# Altium integrated library Xilinx Spartan-II.IntLib: 120 symbols (part 1 of 15)
Pins are listed as number, name and electrical type; pins without a type are passive.

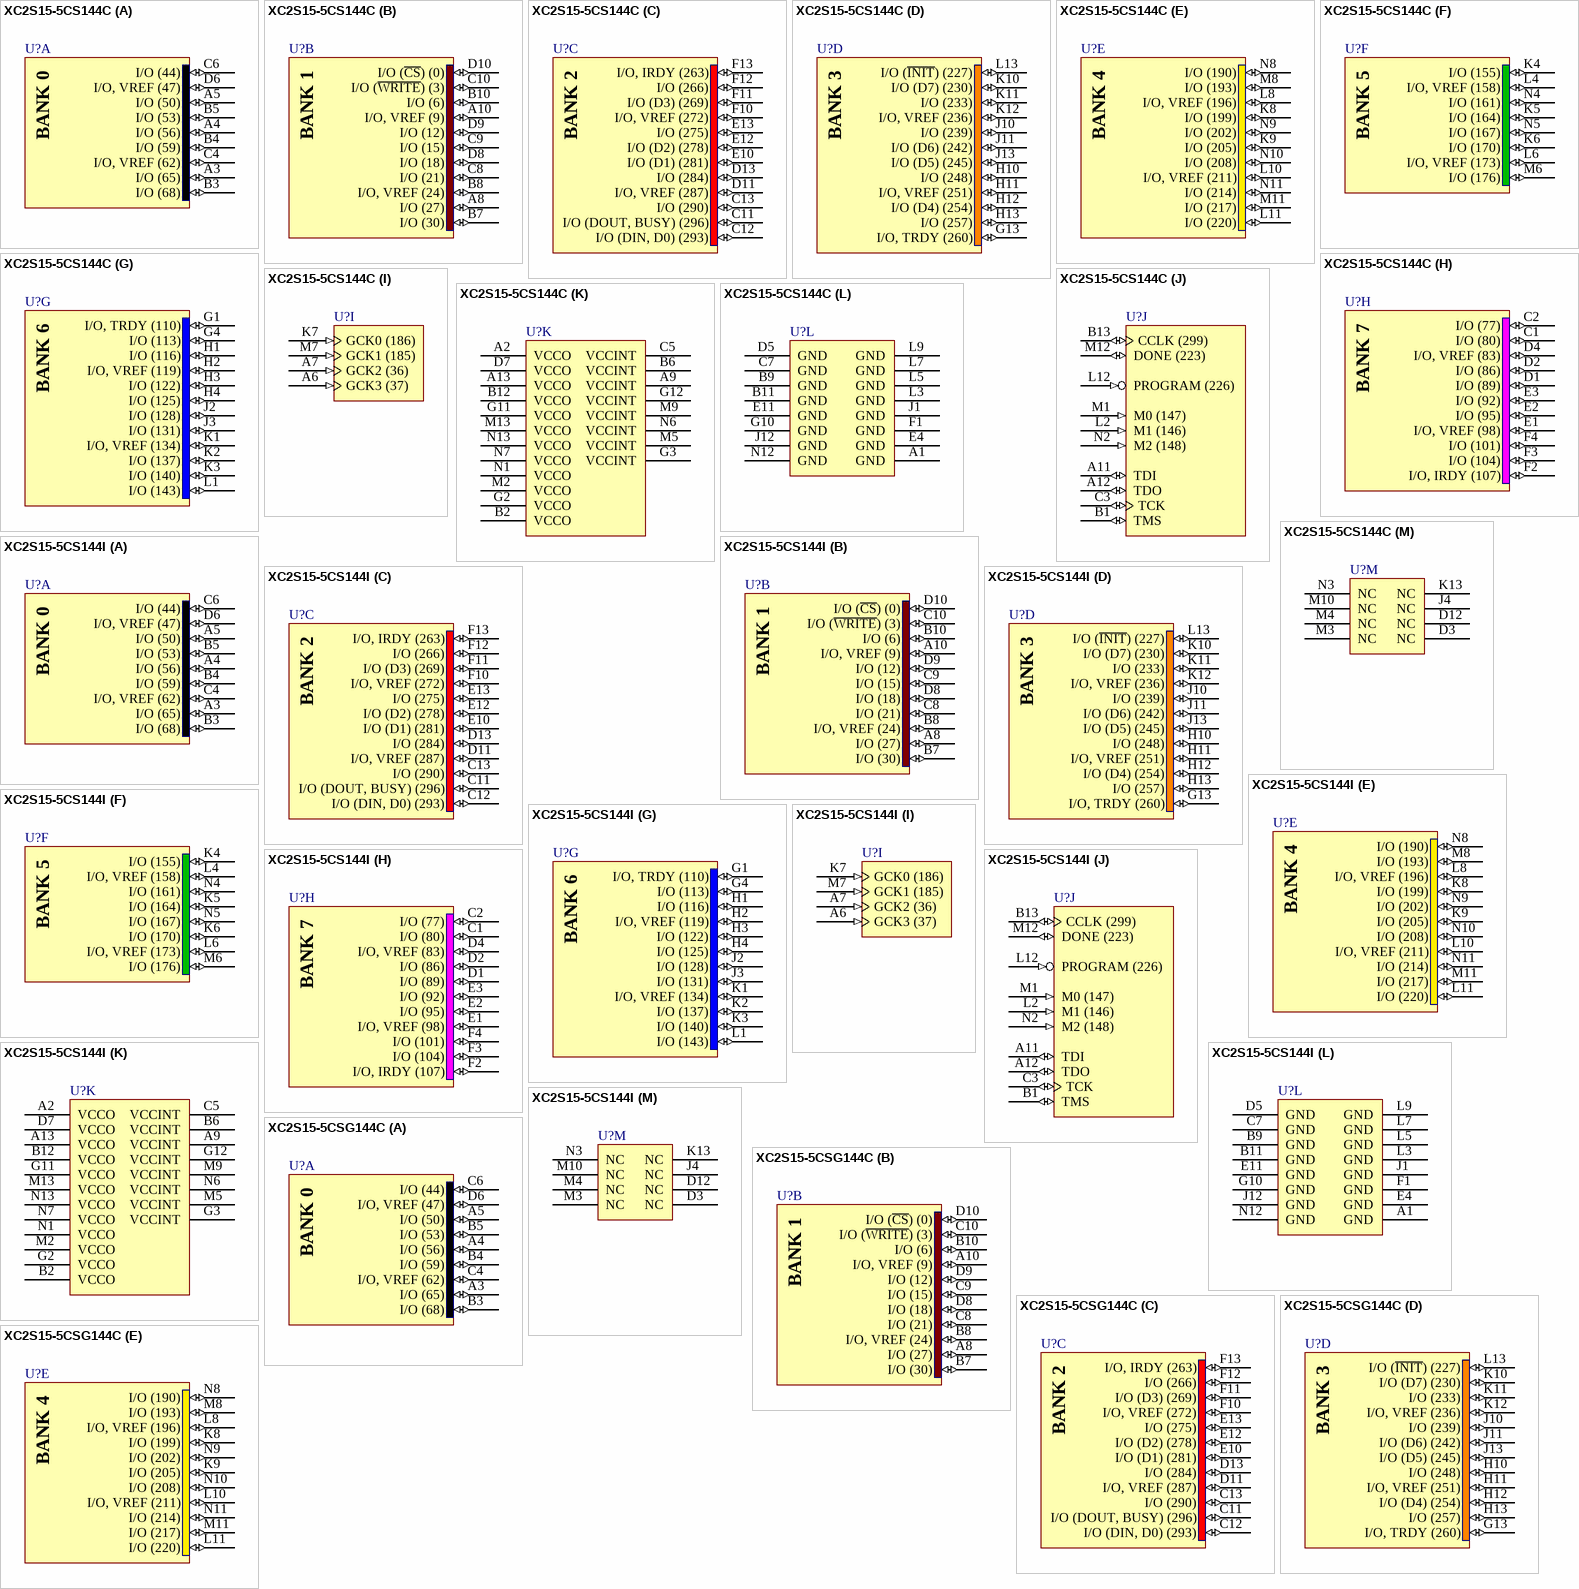
[diagram p0: symbols XC2S15-5CS144C to XC2S15-5CSG144C]

## XC2S15-5CS144C
designator U?
Spartan-II 2.5V FPGA, 86 User I/Os, 144-Ball CSBGA, Standard Performance, Commercial Grade; Published: 13-Jul-2001; LatestRevisionDate: 16-Nov-2009; LatestRevisionNote: Updated to datasheet version 2.8 Jun-2008.; DatasheetVersion: ver2.8, Jun-2008; PackageVersion: ver1.3, Jan-2007; PackageReference: CS144; Publisher: Altium Limited; PackageDescription: 144-Ball Chip Scale Ball Grid Array (CS144); Supplier 1: Digi-Key; Supplier Part Number 1: XC2S15-5CS144C-ND; Code_JEDEC: MO-216-BAG-2 (Depopulated); ComponentLink1Description: Spartan-II Datasheet; ComponentLink1URL: http://www.xilinx.com/support/documentation/data_sheets/ds001.pdf; ComponentLink2Description: Discontinuation Notice; ComponentLink2URL: http://www.xilinx.com/support/documentation/customer_notices/pdn2004-01.pdf; ComponentLink3Description: CS144 Package Drawing; ComponentLink3URL: http://www.xilinx.com/support/documentation/package_specs/cs144.pdf; ComponentLink4Description: Spartan-II Documents; ComponentLink4URL: http://www.xilinx.com/support/documentation/spartan-ii.htm; ComponentLink5Description: Xilinx.com Home; ComponentLink5URL: http://www.xilinx.com
footprint CS144 (BGA, 144-Leads, Body 12x12mm, Pitch 0.8mm)
signal-integrity model XC2S15_CS144 (Spartan-II)
part A pins: A3 I/O (65) (io), A4 I/O (56) (io), A5 I/O (50) (io), B3 I/O (68) (io), B4 I/O (59) (io), B5 I/O (53) (io), C4 I/O, VREF (62) (io), C6 I/O (44) (io), D6 I/O, VREF (47) (io)
part B pins: A8 I/O (27) (io), A10 I/O, VREF (9) (io), B7 I/O (30) (io), B8 I/O, VREF (24) (io), B10 I/O (6) (io), C8 I/O (21) (io), C9 I/O (15) (io), C10 I/O (~{WRITE}) (3) (io), D8 I/O (18) (io), D9 I/O (12) (io), D10 I/O (~{CS}) (0) (io)
part C pins: C11 I/O (DOUT, BUSY) (296) (io), C12 I/O (DIN, D0) (293) (io), C13 I/O (290) (io), D11 I/O, VREF (287) (io), D13 I/O (284) (io), E10 I/O (D1) (281) (io), E12 I/O (D2) (278) (io), E13 I/O (275) (io), F10 I/O, VREF (272) (io), F11 I/O (D3) (269) (io), F12 I/O (266) (io), F13 I/O, IRDY (263) (io)
part D pins: G13 I/O, TRDY (260) (io), H10 I/O (248) (io), H11 I/O, VREF (251) (io), H12 I/O (D4) (254) (io), H13 I/O (257) (io), J10 I/O (239) (io), J11 I/O (D6) (242) (io), J13 I/O (D5) (245) (io), K10 I/O (D7) (230) (io), K11 I/O (233) (io), K12 I/O, VREF (236) (io), L13 I/O (~{INIT}) (227) (io)
part E pins: K8 I/O (199) (io), K9 I/O (205) (io), L8 I/O, VREF (196) (io), L10 I/O, VREF (211) (io), L11 I/O (220) (io), M8 I/O (193) (io), M11 I/O (217) (io), N8 I/O (190) (io), N9 I/O (202) (io), N10 I/O (208) (io), N11 I/O (214) (io)
part F pins: K4 I/O (155) (io), K5 I/O (164) (io), K6 I/O (170) (io), L4 I/O, VREF (158) (io), L6 I/O, VREF (173) (io), M6 I/O (176) (io), N4 I/O (161) (io), N5 I/O (167) (io)
part G pins: G1 I/O, TRDY (110) (io), G4 I/O (113) (io), H1 I/O (116) (io), H2 I/O, VREF (119) (io), H3 I/O (122) (io), H4 I/O (125) (io), J2 I/O (128) (io), J3 I/O (131) (io), K1 I/O, VREF (134) (io), K2 I/O (137) (io), K3 I/O (140) (io), L1 I/O (143) (io)
part H pins: C1 I/O (80) (io), C2 I/O (77) (io), D1 I/O (89) (io), D2 I/O (86) (io), D4 I/O, VREF (83) (io), E1 I/O, VREF (98) (io), E2 I/O (95) (io), E3 I/O (92) (io), F2 I/O, IRDY (107) (io), F3 I/O (104) (io), F4 I/O (101) (io)
part I pins: A6 GCK3 (37) (in), A7 GCK2 (36) (in), K7 GCK0 (186) (in), M7 GCK1 (185) (in)
part J pins: A11 TDI (io), A12 TDO (io), B1 TMS (io), B13 CCLK (299) (io), C3 TCK (io), L2 M1 (146) (in), L12 PROGRAM (226) (in), M1 M0 (147) (in), M12 DONE (223) (io), N2 M2 (148) (in)
part K pins: A2 VCCO (power), A9 VCCINT (power), A13 VCCO (power), B2 VCCO (power), B6 VCCINT (power), B12 VCCO (power), C5 VCCINT (power), D7 VCCO (power), G2 VCCO (power), G3 VCCINT (power), G11 VCCO (power), G12 VCCINT (power), M2 VCCO (power), M5 VCCINT (power), M9 VCCINT (power), M13 VCCO (power), N1 VCCO (power), N6 VCCINT (power), N7 VCCO (power), N13 VCCO (power)
part L pins: A1 GND (power), B9 GND (power), B11 GND (power), C7 GND (power), D5 GND (power), E4 GND (power), E11 GND (power), F1 GND (power), G10 GND (power), J1 GND (power), J12 GND (power), L3 GND (power), L5 GND (power), L7 GND (power), L9 GND (power), N12 GND (power)
part M pins: D3 NC, D12 NC, J4 NC, K13 NC, M3 NC, M4 NC, M10 NC, N3 NC
part A text: BANK 0
part B text: BANK 1
part C text: BANK 2
part D text: BANK 3
part E text: BANK 4
part F text: BANK 5
part G text: BANK 6
part H text: BANK 7

## XC2S15-5CS144I
designator U?
Spartan-II 2.5V FPGA, 86 User I/Os, 144-Ball CSBGA, Standard Performance, Industrial Grade; Published: 13-Jul-2001; LatestRevisionDate: 16-Nov-2009; LatestRevisionNote: Updated to datasheet version 2.8 Jun-2008.; DatasheetVersion: ver2.8, Jun-2008; PackageVersion: ver1.3, Jan-2007; PackageReference: CS144; Publisher: Altium Limited; PackageDescription: 144-Ball Chip Scale Ball Grid Array (CS144); Supplier 1: Digi-Key; Supplier Part Number 1: XC2S15-5CS144I-ND; Code_JEDEC: MO-216-BAG-2 (Depopulated); ComponentLink1Description: Spartan-II Datasheet; ComponentLink1URL: http://www.xilinx.com/support/documentation/data_sheets/ds001.pdf; ComponentLink2Description: Discontinuation Notice; ComponentLink2URL: http://www.xilinx.com/support/documentation/customer_notices/pdn2004-01.pdf; ComponentLink3Description: CS144 Package Drawing; ComponentLink3URL: http://www.xilinx.com/support/documentation/package_specs/cs144.pdf; ComponentLink4Description: Spartan-II Documents; ComponentLink4URL: http://www.xilinx.com/support/documentation/spartan-ii.htm; ComponentLink5Description: Xilinx.com Home; ComponentLink5URL: http://www.xilinx.com
footprint CS144 (BGA, 144-Leads, Body 12x12mm, Pitch 0.8mm)
signal-integrity model XC2S15_CS144 (Spartan-II)
part A pins: A3 I/O (65) (io), A4 I/O (56) (io), A5 I/O (50) (io), B3 I/O (68) (io), B4 I/O (59) (io), B5 I/O (53) (io), C4 I/O, VREF (62) (io), C6 I/O (44) (io), D6 I/O, VREF (47) (io)
part B pins: A8 I/O (27) (io), A10 I/O, VREF (9) (io), B7 I/O (30) (io), B8 I/O, VREF (24) (io), B10 I/O (6) (io), C8 I/O (21) (io), C9 I/O (15) (io), C10 I/O (~{WRITE}) (3) (io), D8 I/O (18) (io), D9 I/O (12) (io), D10 I/O (~{CS}) (0) (io)
part C pins: C11 I/O (DOUT, BUSY) (296) (io), C12 I/O (DIN, D0) (293) (io), C13 I/O (290) (io), D11 I/O, VREF (287) (io), D13 I/O (284) (io), E10 I/O (D1) (281) (io), E12 I/O (D2) (278) (io), E13 I/O (275) (io), F10 I/O, VREF (272) (io), F11 I/O (D3) (269) (io), F12 I/O (266) (io), F13 I/O, IRDY (263) (io)
part D pins: G13 I/O, TRDY (260) (io), H10 I/O (248) (io), H11 I/O, VREF (251) (io), H12 I/O (D4) (254) (io), H13 I/O (257) (io), J10 I/O (239) (io), J11 I/O (D6) (242) (io), J13 I/O (D5) (245) (io), K10 I/O (D7) (230) (io), K11 I/O (233) (io), K12 I/O, VREF (236) (io), L13 I/O (~{INIT}) (227) (io)
part E pins: K8 I/O (199) (io), K9 I/O (205) (io), L8 I/O, VREF (196) (io), L10 I/O, VREF (211) (io), L11 I/O (220) (io), M8 I/O (193) (io), M11 I/O (217) (io), N8 I/O (190) (io), N9 I/O (202) (io), N10 I/O (208) (io), N11 I/O (214) (io)
part F pins: K4 I/O (155) (io), K5 I/O (164) (io), K6 I/O (170) (io), L4 I/O, VREF (158) (io), L6 I/O, VREF (173) (io), M6 I/O (176) (io), N4 I/O (161) (io), N5 I/O (167) (io)
part G pins: G1 I/O, TRDY (110) (io), G4 I/O (113) (io), H1 I/O (116) (io), H2 I/O, VREF (119) (io), H3 I/O (122) (io), H4 I/O (125) (io), J2 I/O (128) (io), J3 I/O (131) (io), K1 I/O, VREF (134) (io), K2 I/O (137) (io), K3 I/O (140) (io), L1 I/O (143) (io)
part H pins: C1 I/O (80) (io), C2 I/O (77) (io), D1 I/O (89) (io), D2 I/O (86) (io), D4 I/O, VREF (83) (io), E1 I/O, VREF (98) (io), E2 I/O (95) (io), E3 I/O (92) (io), F2 I/O, IRDY (107) (io), F3 I/O (104) (io), F4 I/O (101) (io)
part I pins: A6 GCK3 (37) (in), A7 GCK2 (36) (in), K7 GCK0 (186) (in), M7 GCK1 (185) (in)
part J pins: A11 TDI (io), A12 TDO (io), B1 TMS (io), B13 CCLK (299) (io), C3 TCK (io), L2 M1 (146) (in), L12 PROGRAM (226) (in), M1 M0 (147) (in), M12 DONE (223) (io), N2 M2 (148) (in)
part K pins: A2 VCCO (power), A9 VCCINT (power), A13 VCCO (power), B2 VCCO (power), B6 VCCINT (power), B12 VCCO (power), C5 VCCINT (power), D7 VCCO (power), G2 VCCO (power), G3 VCCINT (power), G11 VCCO (power), G12 VCCINT (power), M2 VCCO (power), M5 VCCINT (power), M9 VCCINT (power), M13 VCCO (power), N1 VCCO (power), N6 VCCINT (power), N7 VCCO (power), N13 VCCO (power)
part L pins: A1 GND (power), B9 GND (power), B11 GND (power), C7 GND (power), D5 GND (power), E4 GND (power), E11 GND (power), F1 GND (power), G10 GND (power), J1 GND (power), J12 GND (power), L3 GND (power), L5 GND (power), L7 GND (power), L9 GND (power), N12 GND (power)
part M pins: D3 NC, D12 NC, J4 NC, K13 NC, M3 NC, M4 NC, M10 NC, N3 NC
part A text: BANK 0
part B text: BANK 1
part C text: BANK 2
part D text: BANK 3
part E text: BANK 4
part F text: BANK 5
part G text: BANK 6
part H text: BANK 7

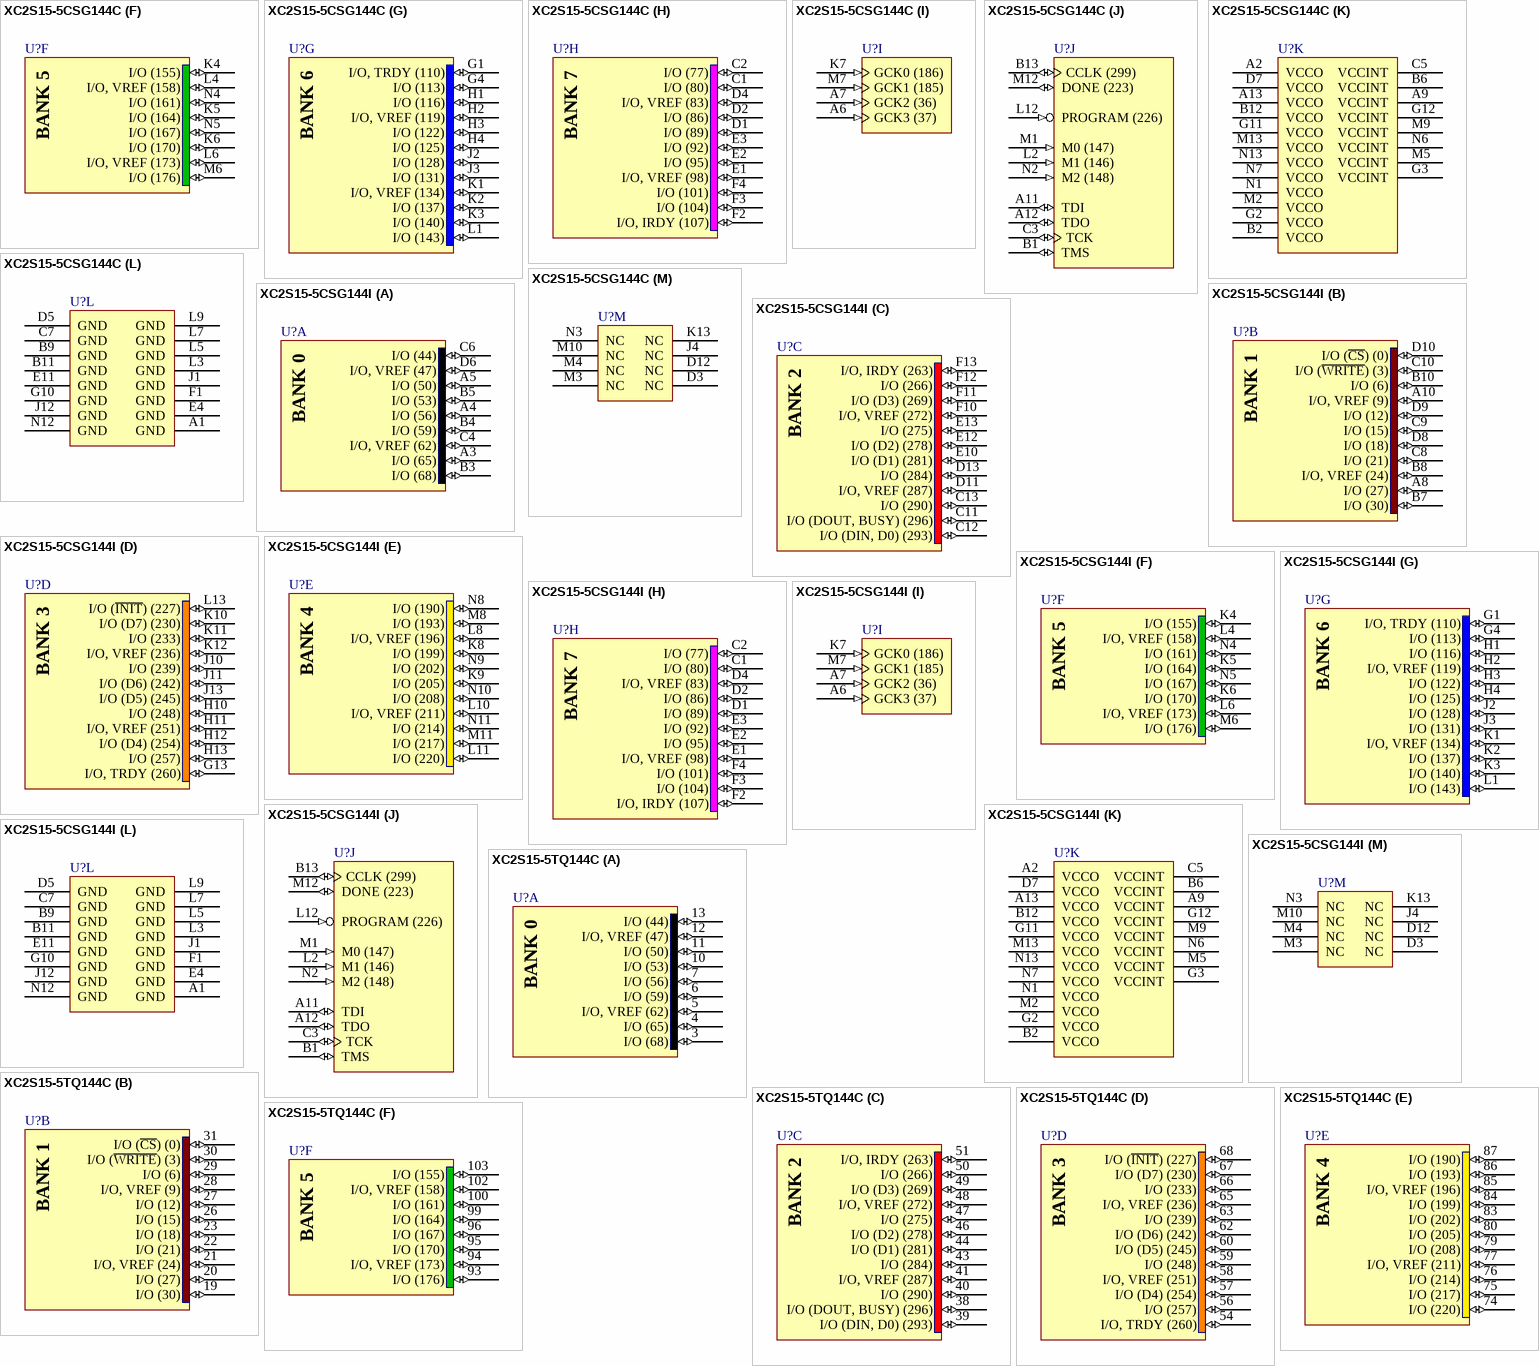
[diagram p1: symbols XC2S15-5CSG144C to XC2S15-5TQ144C]

## XC2S15-5CSG144C
designator U?
Spartan-II 2.5V FPGA, 86 User I/Os, 144-Ball CSBGA, Standard Performance, Commercial Grade, Pb-Free; Published: 2-Mar-2006; LatestRevisionDate: 16-Nov-2009; LatestRevisionNote: Updated to datasheet version 2.8 Jun-2008.; DatasheetVersion: ver2.8, Jun-2008; PackageVersion: ver1.3, Jan-2007; PackageReference: CSG144; Publisher: Altium Limited; PackageDescription: 144-Ball Chip Scale Ball Grid Array (CSG144) - Pb-Free; Code_JEDEC: MO-216-BAG-2 (Depopulated); ComponentLink1Description: Spartan-II Datasheet; ComponentLink1URL: http://www.xilinx.com/support/documentation/data_sheets/ds001.pdf; ComponentLink2Description: CSG144 Package Drawing; ComponentLink2URL: http://www.xilinx.com/support/documentation/package_specs/cs144.pdf; ComponentLink3Description: Spartan-II Documents; ComponentLink3URL: http://www.xilinx.com/support/documentation/spartan-ii.htm; ComponentLink4Description: Xilinx.com Home; ComponentLink4URL: http://www.xilinx.com
footprint CSG144 (BGA, 144-Leads, Body 12x12mm, Pitch 0.8mm)
signal-integrity model XC2S15_CSG144 (Spartan-II)
part A pins: A3 I/O (65) (io), A4 I/O (56) (io), A5 I/O (50) (io), B3 I/O (68) (io), B4 I/O (59) (io), B5 I/O (53) (io), C4 I/O, VREF (62) (io), C6 I/O (44) (io), D6 I/O, VREF (47) (io)
part B pins: A8 I/O (27) (io), A10 I/O, VREF (9) (io), B7 I/O (30) (io), B8 I/O, VREF (24) (io), B10 I/O (6) (io), C8 I/O (21) (io), C9 I/O (15) (io), C10 I/O (~{WRITE}) (3) (io), D8 I/O (18) (io), D9 I/O (12) (io), D10 I/O (~{CS}) (0) (io)
part C pins: C11 I/O (DOUT, BUSY) (296) (io), C12 I/O (DIN, D0) (293) (io), C13 I/O (290) (io), D11 I/O, VREF (287) (io), D13 I/O (284) (io), E10 I/O (D1) (281) (io), E12 I/O (D2) (278) (io), E13 I/O (275) (io), F10 I/O, VREF (272) (io), F11 I/O (D3) (269) (io), F12 I/O (266) (io), F13 I/O, IRDY (263) (io)
part D pins: G13 I/O, TRDY (260) (io), H10 I/O (248) (io), H11 I/O, VREF (251) (io), H12 I/O (D4) (254) (io), H13 I/O (257) (io), J10 I/O (239) (io), J11 I/O (D6) (242) (io), J13 I/O (D5) (245) (io), K10 I/O (D7) (230) (io), K11 I/O (233) (io), K12 I/O, VREF (236) (io), L13 I/O (~{INIT}) (227) (io)
part E pins: K8 I/O (199) (io), K9 I/O (205) (io), L8 I/O, VREF (196) (io), L10 I/O, VREF (211) (io), L11 I/O (220) (io), M8 I/O (193) (io), M11 I/O (217) (io), N8 I/O (190) (io), N9 I/O (202) (io), N10 I/O (208) (io), N11 I/O (214) (io)
part F pins: K4 I/O (155) (io), K5 I/O (164) (io), K6 I/O (170) (io), L4 I/O, VREF (158) (io), L6 I/O, VREF (173) (io), M6 I/O (176) (io), N4 I/O (161) (io), N5 I/O (167) (io)
part G pins: G1 I/O, TRDY (110) (io), G4 I/O (113) (io), H1 I/O (116) (io), H2 I/O, VREF (119) (io), H3 I/O (122) (io), H4 I/O (125) (io), J2 I/O (128) (io), J3 I/O (131) (io), K1 I/O, VREF (134) (io), K2 I/O (137) (io), K3 I/O (140) (io), L1 I/O (143) (io)
part H pins: C1 I/O (80) (io), C2 I/O (77) (io), D1 I/O (89) (io), D2 I/O (86) (io), D4 I/O, VREF (83) (io), E1 I/O, VREF (98) (io), E2 I/O (95) (io), E3 I/O (92) (io), F2 I/O, IRDY (107) (io), F3 I/O (104) (io), F4 I/O (101) (io)
part I pins: A6 GCK3 (37) (in), A7 GCK2 (36) (in), K7 GCK0 (186) (in), M7 GCK1 (185) (in)
part J pins: A11 TDI (io), A12 TDO (io), B1 TMS (io), B13 CCLK (299) (io), C3 TCK (io), L2 M1 (146) (in), L12 PROGRAM (226) (in), M1 M0 (147) (in), M12 DONE (223) (io), N2 M2 (148) (in)
part K pins: A2 VCCO (power), A9 VCCINT (power), A13 VCCO (power), B2 VCCO (power), B6 VCCINT (power), B12 VCCO (power), C5 VCCINT (power), D7 VCCO (power), G2 VCCO (power), G3 VCCINT (power), G11 VCCO (power), G12 VCCINT (power), M2 VCCO (power), M5 VCCINT (power), M9 VCCINT (power), M13 VCCO (power), N1 VCCO (power), N6 VCCINT (power), N7 VCCO (power), N13 VCCO (power)
part L pins: A1 GND (power), B9 GND (power), B11 GND (power), C7 GND (power), D5 GND (power), E4 GND (power), E11 GND (power), F1 GND (power), G10 GND (power), J1 GND (power), J12 GND (power), L3 GND (power), L5 GND (power), L7 GND (power), L9 GND (power), N12 GND (power)
part M pins: D3 NC, D12 NC, J4 NC, K13 NC, M3 NC, M4 NC, M10 NC, N3 NC
part A text: BANK 0
part B text: BANK 1
part C text: BANK 2
part D text: BANK 3
part E text: BANK 4
part F text: BANK 5
part G text: BANK 6
part H text: BANK 7

## XC2S15-5CSG144I
designator U?
Spartan-II 2.5V FPGA, 86 User I/Os, 144-Ball CSBGA, Standard Performance, Industrial Grade, Pb-Free; Published: 2-Mar-2006; LatestRevisionDate: 16-Nov-2009; LatestRevisionNote: Updated to datasheet version 2.8 Jun-2008.; DatasheetVersion: ver2.8, Jun-2008; PackageVersion: ver1.3, Jan-2007; PackageReference: CSG144; Publisher: Altium Limited; PackageDescription: 144-Ball Chip Scale Ball Grid Array (CSG144) - Pb-Free; Code_JEDEC: MO-216-BAG-2 (Depopulated); ComponentLink1Description: Spartan-II Datasheet; ComponentLink1URL: http://www.xilinx.com/support/documentation/data_sheets/ds001.pdf; ComponentLink2Description: CSG144 Package Drawing; ComponentLink2URL: http://www.xilinx.com/support/documentation/package_specs/cs144.pdf; ComponentLink3Description: Spartan-II Documents; ComponentLink3URL: http://www.xilinx.com/support/documentation/spartan-ii.htm; ComponentLink4Description: Xilinx.com Home; ComponentLink4URL: http://www.xilinx.com
footprint CSG144 (BGA, 144-Leads, Body 12x12mm, Pitch 0.8mm)
signal-integrity model XC2S15_CSG144 (Spartan-II)
part A pins: A3 I/O (65) (io), A4 I/O (56) (io), A5 I/O (50) (io), B3 I/O (68) (io), B4 I/O (59) (io), B5 I/O (53) (io), C4 I/O, VREF (62) (io), C6 I/O (44) (io), D6 I/O, VREF (47) (io)
part B pins: A8 I/O (27) (io), A10 I/O, VREF (9) (io), B7 I/O (30) (io), B8 I/O, VREF (24) (io), B10 I/O (6) (io), C8 I/O (21) (io), C9 I/O (15) (io), C10 I/O (~{WRITE}) (3) (io), D8 I/O (18) (io), D9 I/O (12) (io), D10 I/O (~{CS}) (0) (io)
part C pins: C11 I/O (DOUT, BUSY) (296) (io), C12 I/O (DIN, D0) (293) (io), C13 I/O (290) (io), D11 I/O, VREF (287) (io), D13 I/O (284) (io), E10 I/O (D1) (281) (io), E12 I/O (D2) (278) (io), E13 I/O (275) (io), F10 I/O, VREF (272) (io), F11 I/O (D3) (269) (io), F12 I/O (266) (io), F13 I/O, IRDY (263) (io)
part D pins: G13 I/O, TRDY (260) (io), H10 I/O (248) (io), H11 I/O, VREF (251) (io), H12 I/O (D4) (254) (io), H13 I/O (257) (io), J10 I/O (239) (io), J11 I/O (D6) (242) (io), J13 I/O (D5) (245) (io), K10 I/O (D7) (230) (io), K11 I/O (233) (io), K12 I/O, VREF (236) (io), L13 I/O (~{INIT}) (227) (io)
part E pins: K8 I/O (199) (io), K9 I/O (205) (io), L8 I/O, VREF (196) (io), L10 I/O, VREF (211) (io), L11 I/O (220) (io), M8 I/O (193) (io), M11 I/O (217) (io), N8 I/O (190) (io), N9 I/O (202) (io), N10 I/O (208) (io), N11 I/O (214) (io)
part F pins: K4 I/O (155) (io), K5 I/O (164) (io), K6 I/O (170) (io), L4 I/O, VREF (158) (io), L6 I/O, VREF (173) (io), M6 I/O (176) (io), N4 I/O (161) (io), N5 I/O (167) (io)
part G pins: G1 I/O, TRDY (110) (io), G4 I/O (113) (io), H1 I/O (116) (io), H2 I/O, VREF (119) (io), H3 I/O (122) (io), H4 I/O (125) (io), J2 I/O (128) (io), J3 I/O (131) (io), K1 I/O, VREF (134) (io), K2 I/O (137) (io), K3 I/O (140) (io), L1 I/O (143) (io)
part H pins: C1 I/O (80) (io), C2 I/O (77) (io), D1 I/O (89) (io), D2 I/O (86) (io), D4 I/O, VREF (83) (io), E1 I/O, VREF (98) (io), E2 I/O (95) (io), E3 I/O (92) (io), F2 I/O, IRDY (107) (io), F3 I/O (104) (io), F4 I/O (101) (io)
part I pins: A6 GCK3 (37) (in), A7 GCK2 (36) (in), K7 GCK0 (186) (in), M7 GCK1 (185) (in)
part J pins: A11 TDI (io), A12 TDO (io), B1 TMS (io), B13 CCLK (299) (io), C3 TCK (io), L2 M1 (146) (in), L12 PROGRAM (226) (in), M1 M0 (147) (in), M12 DONE (223) (io), N2 M2 (148) (in)
part K pins: A2 VCCO (power), A9 VCCINT (power), A13 VCCO (power), B2 VCCO (power), B6 VCCINT (power), B12 VCCO (power), C5 VCCINT (power), D7 VCCO (power), G2 VCCO (power), G3 VCCINT (power), G11 VCCO (power), G12 VCCINT (power), M2 VCCO (power), M5 VCCINT (power), M9 VCCINT (power), M13 VCCO (power), N1 VCCO (power), N6 VCCINT (power), N7 VCCO (power), N13 VCCO (power)
part L pins: A1 GND (power), B9 GND (power), B11 GND (power), C7 GND (power), D5 GND (power), E4 GND (power), E11 GND (power), F1 GND (power), G10 GND (power), J1 GND (power), J12 GND (power), L3 GND (power), L5 GND (power), L7 GND (power), L9 GND (power), N12 GND (power)
part M pins: D3 NC, D12 NC, J4 NC, K13 NC, M3 NC, M4 NC, M10 NC, N3 NC
part A text: BANK 0
part B text: BANK 1
part C text: BANK 2
part D text: BANK 3
part E text: BANK 4
part F text: BANK 5
part G text: BANK 6
part H text: BANK 7

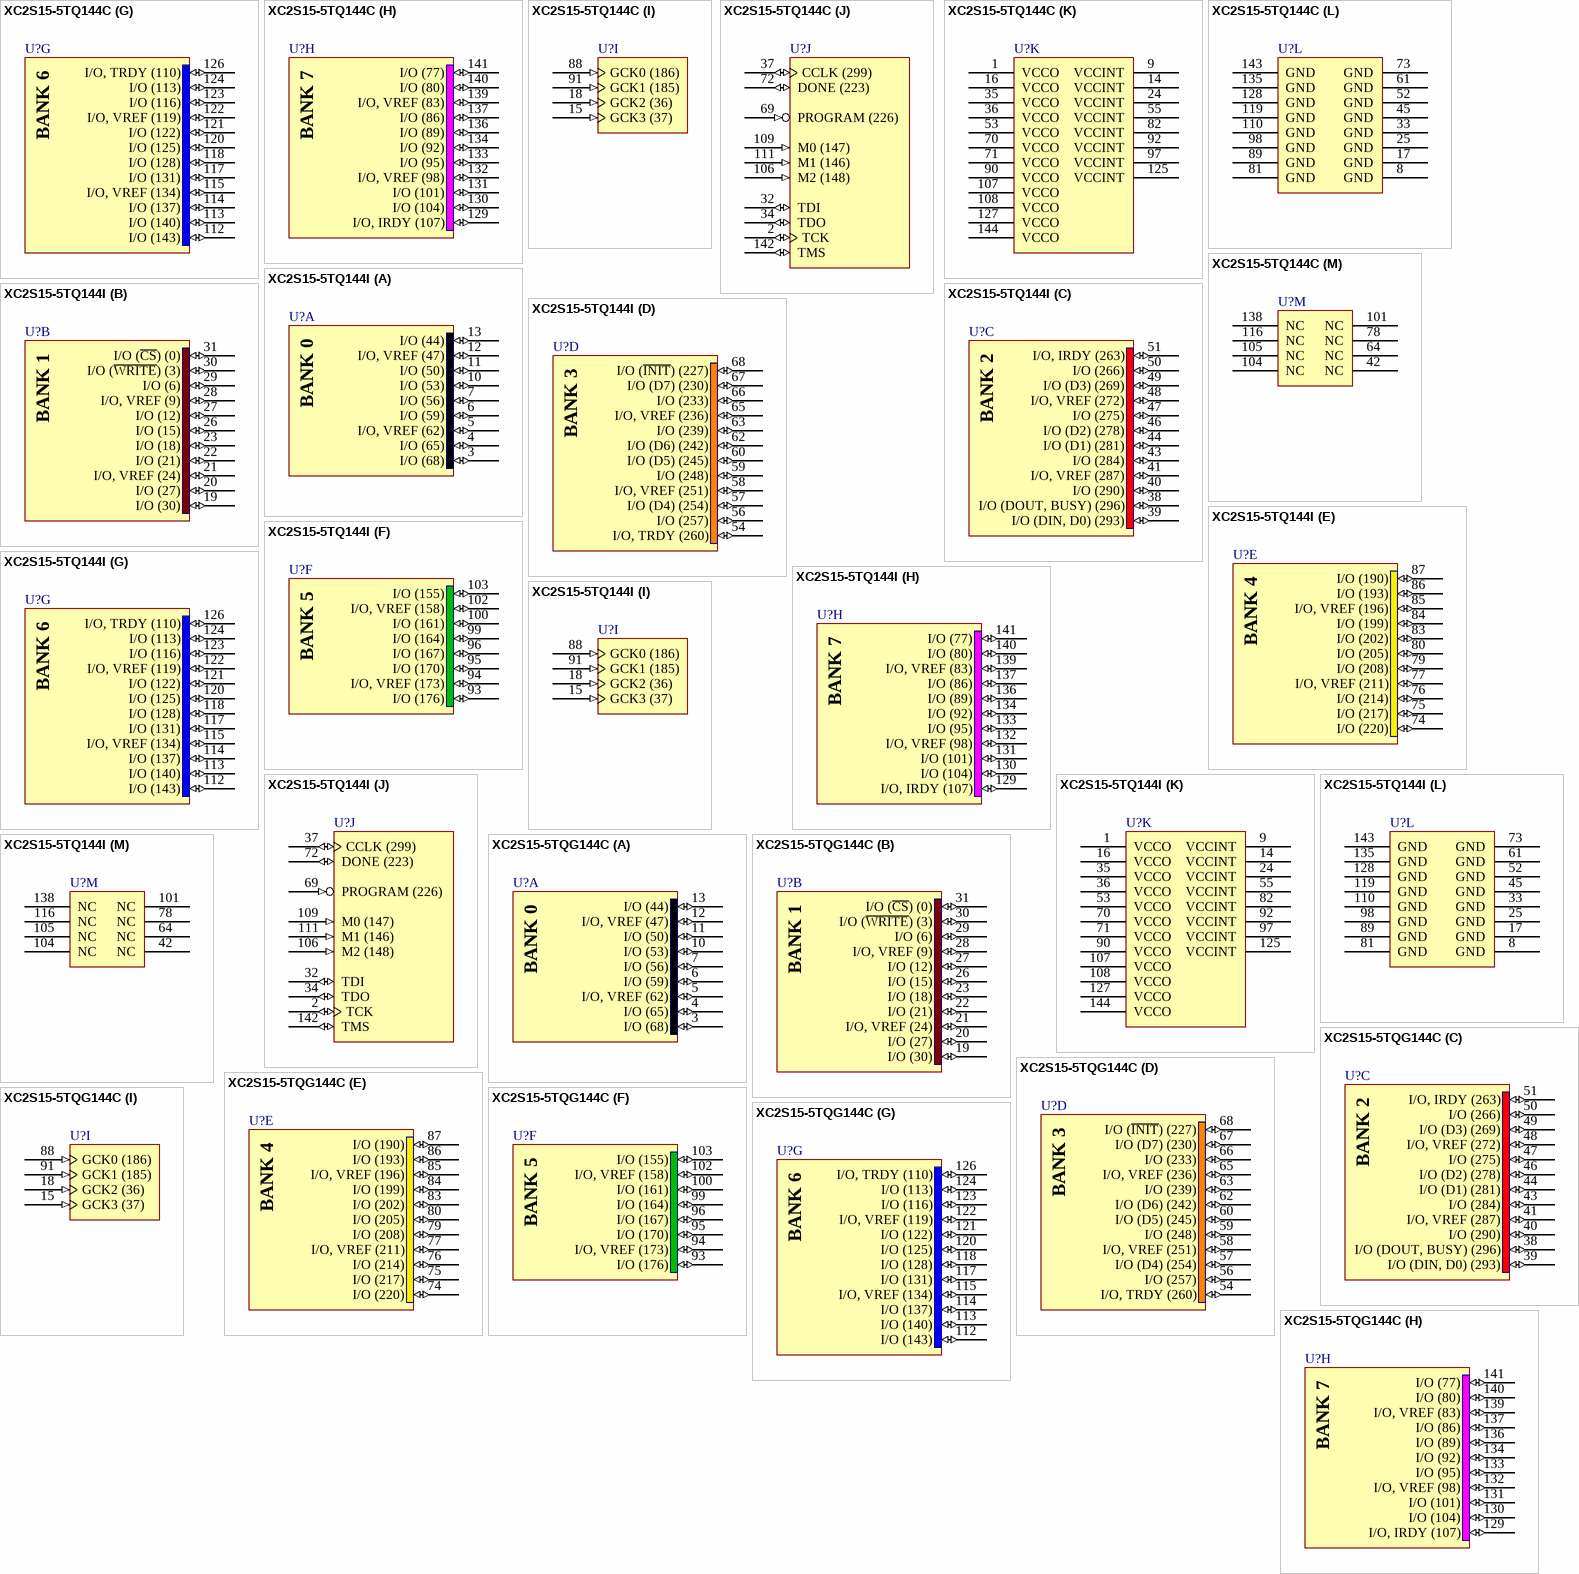
[diagram p2: symbols XC2S15-5TQ144C to XC2S15-5TQG144C]

## XC2S15-5TQ144C
designator U?
Spartan-II 2.5V FPGA, 86 User I/Os, 144-Pin TQFP, Standard Performance, Commercial Grade; Published: 13-Jul-2001; LatestRevisionDate: 16-Nov-2009; LatestRevisionNote: Updated to datasheet version 2.8 Jun-2008.; DatasheetVersion: ver2.8, Jun-2008; PackageVersion: ver1.2, Jun-2004; PackageReference: TQ144; Publisher: Altium Limited; PackageDescription: 144-Pin Thin Quad Flat Pack (TQ144); Supplier 1: Digi-Key; Supplier Part Number 1: 122-1218-ND; Code_JEDEC: MS-026-BFB; ComponentLink1Description: Spartan-II Datasheet; ComponentLink1URL: http://www.xilinx.com/support/documentation/data_sheets/ds001.pdf; ComponentLink2Description: TQ144 Package Drawing; ComponentLink2URL: http://www.xilinx.com/support/documentation/package_specs/tq144.pdf; ComponentLink3Description: Spartan-II Documents; ComponentLink3URL: http://www.xilinx.com/support/documentation/spartan-ii.htm; ComponentLink4Description: Xilinx.com Home; ComponentLink4URL: http://www.xilinx.com
footprint TQ144_N (Thin QFP, 144-Leads, Body 20x20mm, Pitch 0.5mm, IPC Medium Density)
footprint TQ144_L (Thin QFP, 144-Leads, Body 20x20mm, Pitch 0.5mm, IPC High Density)
footprint TQ144_M (Thin QFP, 144-Leads, Body 20x20mm, Pitch 0.5mm, IPC Low Density)
signal-integrity model XC2S15_TQ144 (Spartan-II)
part A pins: 3 I/O (68) (io), 4 I/O (65) (io), 5 I/O, VREF (62) (io), 6 I/O (59) (io), 7 I/O (56) (io), 10 I/O (53) (io), 11 I/O (50) (io), 12 I/O, VREF (47) (io), 13 I/O (44) (io)
part B pins: 19 I/O (30) (io), 20 I/O (27) (io), 21 I/O, VREF (24) (io), 22 I/O (21) (io), 23 I/O (18) (io), 26 I/O (15) (io), 27 I/O (12) (io), 28 I/O, VREF (9) (io), 29 I/O (6) (io), 30 I/O (~{WRITE}) (3) (io), 31 I/O (~{CS}) (0) (io)
part C pins: 38 I/O (DOUT, BUSY) (296) (io), 39 I/O (DIN, D0) (293) (io), 40 I/O (290) (io), 41 I/O, VREF (287) (io), 43 I/O (284) (io), 44 I/O (D1) (281) (io), 46 I/O (D2) (278) (io), 47 I/O (275) (io), 48 I/O, VREF (272) (io), 49 I/O (D3) (269) (io), 50 I/O (266) (io), 51 I/O, IRDY (263) (io)
part D pins: 54 I/O, TRDY (260) (io), 56 I/O (257) (io), 57 I/O (D4) (254) (io), 58 I/O, VREF (251) (io), 59 I/O (248) (io), 60 I/O (D5) (245) (io), 62 I/O (D6) (242) (io), 63 I/O (239) (io), 65 I/O, VREF (236) (io), 66 I/O (233) (io), 67 I/O (D7) (230) (io), 68 I/O (~{INIT}) (227) (io)
part E pins: 74 I/O (220) (io), 75 I/O (217) (io), 76 I/O (214) (io), 77 I/O, VREF (211) (io), 79 I/O (208) (io), 80 I/O (205) (io), 83 I/O (202) (io), 84 I/O (199) (io), 85 I/O, VREF (196) (io), 86 I/O (193) (io), 87 I/O (190) (io)
part F pins: 93 I/O (176) (io), 94 I/O, VREF (173) (io), 95 I/O (170) (io), 96 I/O (167) (io), 99 I/O (164) (io), 100 I/O (161) (io), 102 I/O, VREF (158) (io), 103 I/O (155) (io)
part G pins: 112 I/O (143) (io), 113 I/O (140) (io), 114 I/O (137) (io), 115 I/O, VREF (134) (io), 117 I/O (131) (io), 118 I/O (128) (io), 120 I/O (125) (io), 121 I/O (122) (io), 122 I/O, VREF (119) (io), 123 I/O (116) (io), 124 I/O (113) (io), 126 I/O, TRDY (110) (io)
part H pins: 129 I/O, IRDY (107) (io), 130 I/O (104) (io), 131 I/O (101) (io), 132 I/O, VREF (98) (io), 133 I/O (95) (io), 134 I/O (92) (io), 136 I/O (89) (io), 137 I/O (86) (io), 139 I/O, VREF (83) (io), 140 I/O (80) (io), 141 I/O (77) (io)
part I pins: 15 GCK3 (37) (in), 18 GCK2 (36) (in), 88 GCK0 (186) (in), 91 GCK1 (185) (in)
part J pins: 2 TCK (io), 32 TDI (io), 34 TDO (io), 37 CCLK (299) (io), 69 PROGRAM (226) (in), 72 DONE (223) (io), 106 M2 (148) (in), 109 M0 (147) (in), 111 M1 (146) (in), 142 TMS (io)
part K pins: 1 VCCO (power), 9 VCCINT (power), 14 VCCINT (power), 16 VCCO (power), 24 VCCINT (power), 35 VCCO (power), 36 VCCO (power), 53 VCCO (power), 55 VCCINT (power), 70 VCCO (power), 71 VCCO (power), 82 VCCINT (power), 90 VCCO (power), 92 VCCINT (power), 97 VCCINT (power), 107 VCCO (power), 108 VCCO (power), 125 VCCINT (power), 127 VCCO (power), 144 VCCO (power)
part L pins: 8 GND (power), 17 GND (power), 25 GND (power), 33 GND (power), 45 GND (power), 52 GND (power), 61 GND (power), 73 GND (power), 81 GND (power), 89 GND (power), 98 GND (power), 110 GND (power), 119 GND (power), 128 GND (power), 135 GND (power), 143 GND (power)
part M pins: 42 NC, 64 NC, 78 NC, 101 NC, 104 NC, 105 NC, 116 NC, 138 NC
part A text: BANK 0
part B text: BANK 1
part C text: BANK 2
part D text: BANK 3
part E text: BANK 4
part F text: BANK 5
part G text: BANK 6
part H text: BANK 7

## XC2S15-5TQ144I
designator U?
Spartan-II 2.5V FPGA, 86 User I/Os, 144-Pin TQFP, Standard Performance, Industrial Grade; Published: 13-Jul-2001; LatestRevisionDate: 16-Nov-2009; LatestRevisionNote: Updated to datasheet version 2.8 Jun-2008.; DatasheetVersion: ver2.8, Jun-2008; PackageVersion: ver1.2, Jun-2004; PackageReference: TQ144; Publisher: Altium Limited; PackageDescription: 144-Pin Thin Quad Flat Pack (TQ144); Supplier 1: Digi-Key; Supplier Part Number 1: XC2S15-5TQ144I-ND; Code_JEDEC: MS-026-BFB; ComponentLink1Description: Spartan-II Datasheet; ComponentLink1URL: http://www.xilinx.com/support/documentation/data_sheets/ds001.pdf; ComponentLink2Description: TQ144 Package Drawing; ComponentLink2URL: http://www.xilinx.com/support/documentation/package_specs/tq144.pdf; ComponentLink3Description: Spartan-II Documents; ComponentLink3URL: http://www.xilinx.com/support/documentation/spartan-ii.htm; ComponentLink4Description: Xilinx.com Home; ComponentLink4URL: http://www.xilinx.com
footprint TQ144_N (Thin QFP, 144-Leads, Body 20x20mm, Pitch 0.5mm, IPC Medium Density)
footprint TQ144_L (Thin QFP, 144-Leads, Body 20x20mm, Pitch 0.5mm, IPC High Density)
footprint TQ144_M (Thin QFP, 144-Leads, Body 20x20mm, Pitch 0.5mm, IPC Low Density)
signal-integrity model XC2S15_TQ144 (Spartan-II)
part A pins: 3 I/O (68) (io), 4 I/O (65) (io), 5 I/O, VREF (62) (io), 6 I/O (59) (io), 7 I/O (56) (io), 10 I/O (53) (io), 11 I/O (50) (io), 12 I/O, VREF (47) (io), 13 I/O (44) (io)
part B pins: 19 I/O (30) (io), 20 I/O (27) (io), 21 I/O, VREF (24) (io), 22 I/O (21) (io), 23 I/O (18) (io), 26 I/O (15) (io), 27 I/O (12) (io), 28 I/O, VREF (9) (io), 29 I/O (6) (io), 30 I/O (~{WRITE}) (3) (io), 31 I/O (~{CS}) (0) (io)
part C pins: 38 I/O (DOUT, BUSY) (296) (io), 39 I/O (DIN, D0) (293) (io), 40 I/O (290) (io), 41 I/O, VREF (287) (io), 43 I/O (284) (io), 44 I/O (D1) (281) (io), 46 I/O (D2) (278) (io), 47 I/O (275) (io), 48 I/O, VREF (272) (io), 49 I/O (D3) (269) (io), 50 I/O (266) (io), 51 I/O, IRDY (263) (io)
part D pins: 54 I/O, TRDY (260) (io), 56 I/O (257) (io), 57 I/O (D4) (254) (io), 58 I/O, VREF (251) (io), 59 I/O (248) (io), 60 I/O (D5) (245) (io), 62 I/O (D6) (242) (io), 63 I/O (239) (io), 65 I/O, VREF (236) (io), 66 I/O (233) (io), 67 I/O (D7) (230) (io), 68 I/O (~{INIT}) (227) (io)
part E pins: 74 I/O (220) (io), 75 I/O (217) (io), 76 I/O (214) (io), 77 I/O, VREF (211) (io), 79 I/O (208) (io), 80 I/O (205) (io), 83 I/O (202) (io), 84 I/O (199) (io), 85 I/O, VREF (196) (io), 86 I/O (193) (io), 87 I/O (190) (io)
part F pins: 93 I/O (176) (io), 94 I/O, VREF (173) (io), 95 I/O (170) (io), 96 I/O (167) (io), 99 I/O (164) (io), 100 I/O (161) (io), 102 I/O, VREF (158) (io), 103 I/O (155) (io)
part G pins: 112 I/O (143) (io), 113 I/O (140) (io), 114 I/O (137) (io), 115 I/O, VREF (134) (io), 117 I/O (131) (io), 118 I/O (128) (io), 120 I/O (125) (io), 121 I/O (122) (io), 122 I/O, VREF (119) (io), 123 I/O (116) (io), 124 I/O (113) (io), 126 I/O, TRDY (110) (io)
part H pins: 129 I/O, IRDY (107) (io), 130 I/O (104) (io), 131 I/O (101) (io), 132 I/O, VREF (98) (io), 133 I/O (95) (io), 134 I/O (92) (io), 136 I/O (89) (io), 137 I/O (86) (io), 139 I/O, VREF (83) (io), 140 I/O (80) (io), 141 I/O (77) (io)
part I pins: 15 GCK3 (37) (in), 18 GCK2 (36) (in), 88 GCK0 (186) (in), 91 GCK1 (185) (in)
part J pins: 2 TCK (io), 32 TDI (io), 34 TDO (io), 37 CCLK (299) (io), 69 PROGRAM (226) (in), 72 DONE (223) (io), 106 M2 (148) (in), 109 M0 (147) (in), 111 M1 (146) (in), 142 TMS (io)
part K pins: 1 VCCO (power), 9 VCCINT (power), 14 VCCINT (power), 16 VCCO (power), 24 VCCINT (power), 35 VCCO (power), 36 VCCO (power), 53 VCCO (power), 55 VCCINT (power), 70 VCCO (power), 71 VCCO (power), 82 VCCINT (power), 90 VCCO (power), 92 VCCINT (power), 97 VCCINT (power), 107 VCCO (power), 108 VCCO (power), 125 VCCINT (power), 127 VCCO (power), 144 VCCO (power)
part L pins: 8 GND (power), 17 GND (power), 25 GND (power), 33 GND (power), 45 GND (power), 52 GND (power), 61 GND (power), 73 GND (power), 81 GND (power), 89 GND (power), 98 GND (power), 110 GND (power), 119 GND (power), 128 GND (power), 135 GND (power), 143 GND (power)
part M pins: 42 NC, 64 NC, 78 NC, 101 NC, 104 NC, 105 NC, 116 NC, 138 NC
part A text: BANK 0
part B text: BANK 1
part C text: BANK 2
part D text: BANK 3
part E text: BANK 4
part F text: BANK 5
part G text: BANK 6
part H text: BANK 7

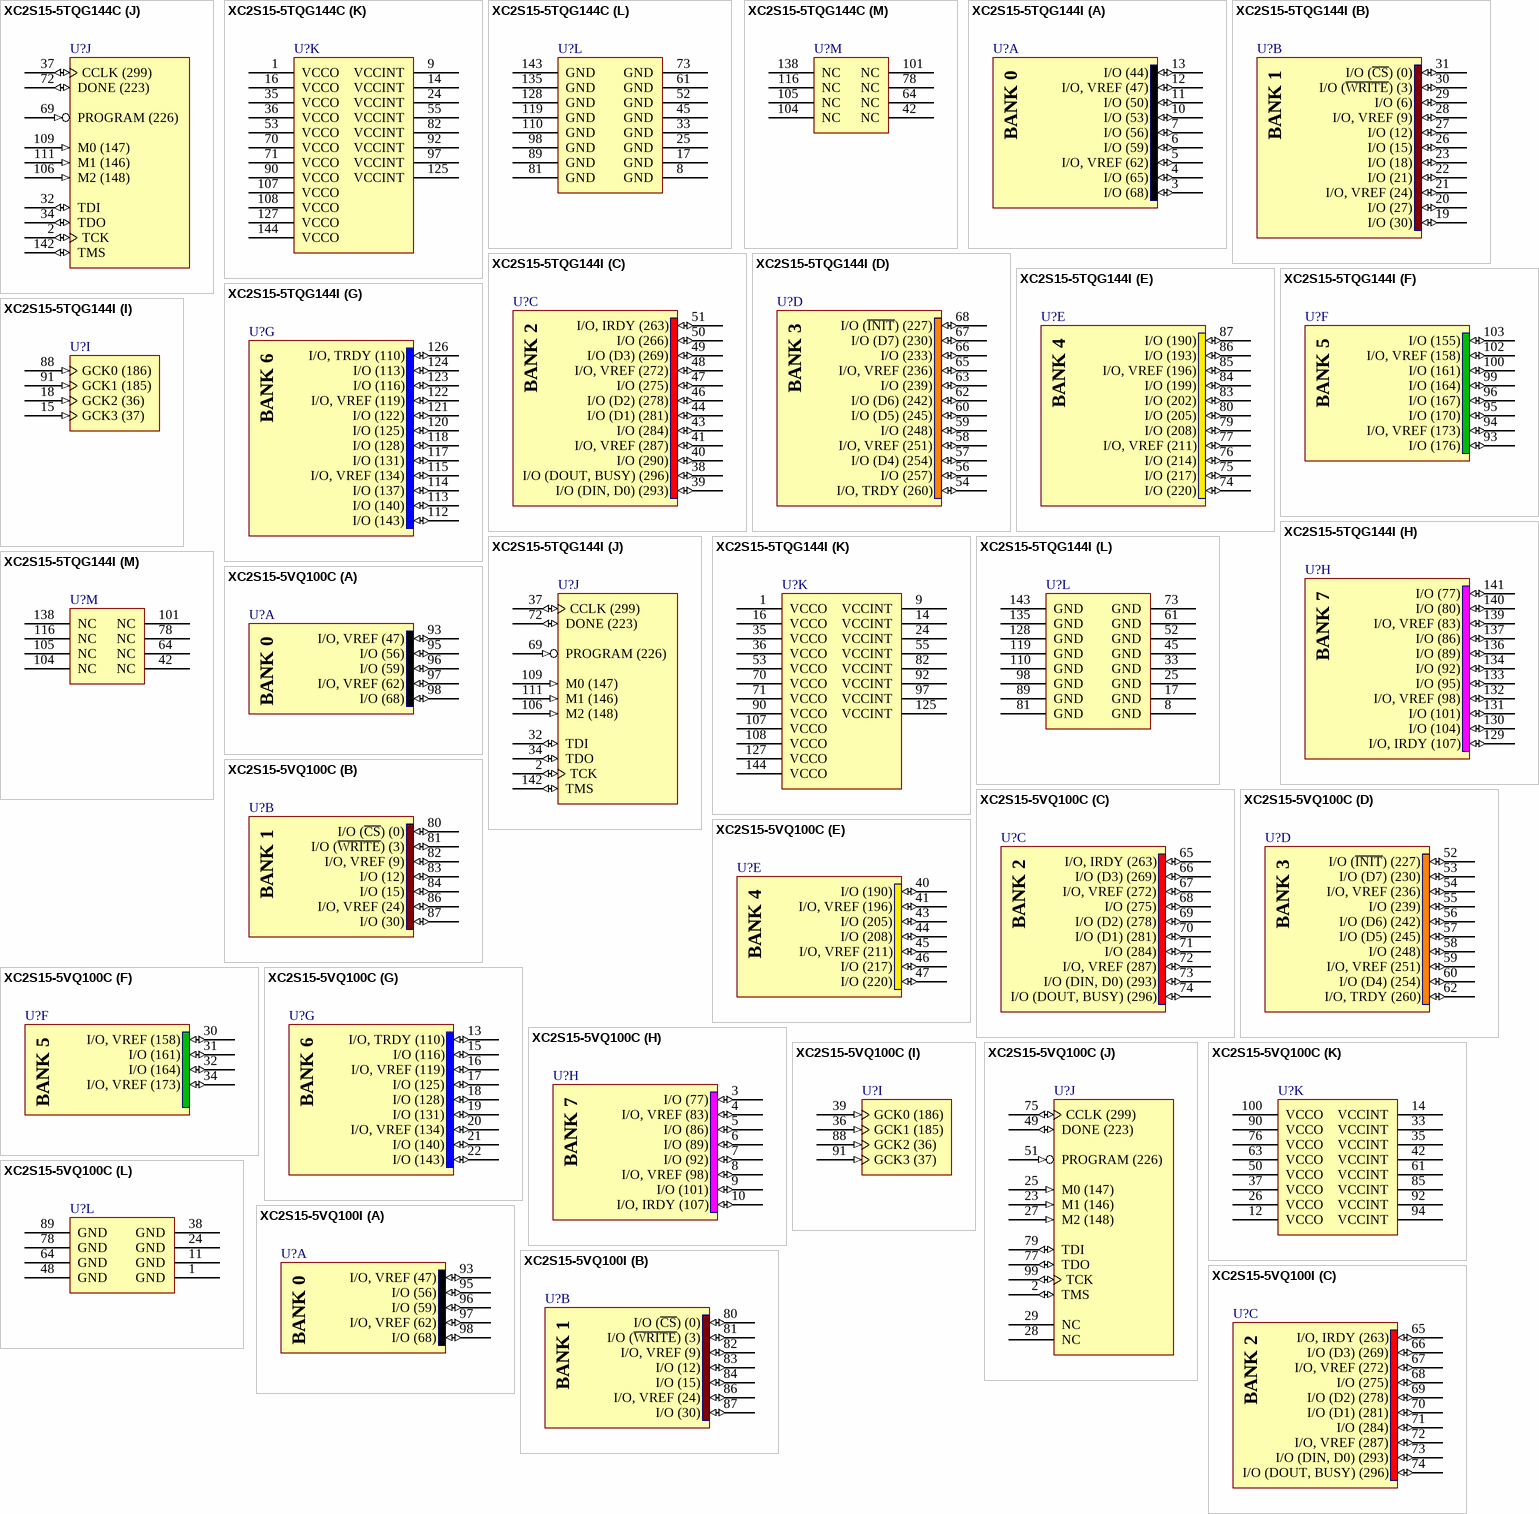
[diagram p3: symbols XC2S15-5TQG144C to XC2S15-5VQ100I]

## XC2S15-5TQG144C
designator U?
Spartan-II 2.5V FPGA, 86 User I/Os, 144-Pin TQFP, Standard Performance, Commercial Grade, Pb-Free; Published: 2-Mar-2006; LatestRevisionDate: 16-Nov-2009; LatestRevisionNote: Updated to datasheet version 2.8 Jun-2008.; DatasheetVersion: ver2.8, Jun-2008; PackageVersion: ver1.2, Jun-2004; PackageReference: TQG144; Publisher: Altium Limited; PackageDescription: 144-Pin Thin Quad Flat Pack (TQG144) - Pb-Free; Code_JEDEC: MS-026-BFB; ComponentLink1Description: Spartan-II Datasheet; ComponentLink1URL: http://www.xilinx.com/support/documentation/data_sheets/ds001.pdf; ComponentLink2Description: TQG144 Package Drawing; ComponentLink2URL: http://www.xilinx.com/support/documentation/package_specs/tq144.pdf; ComponentLink3Description: Spartan-II Documents; ComponentLink3URL: http://www.xilinx.com/support/documentation/spartan-ii.htm; ComponentLink4Description: Xilinx.com Home; ComponentLink4URL: http://www.xilinx.com
footprint TQG144_N (Thin QFP, 144-Leads, Body 20x20mm, Pitch 0.5mm, IPC Medium Density)
footprint TQG144_L (Thin QFP, 144-Leads, Body 20x20mm, Pitch 0.5mm, IPC High Density)
footprint TQG144_M (Thin QFP, 144-Leads, Body 20x20mm, Pitch 0.5mm, IPC Low Density)
signal-integrity model XC2S15_TQG144 (Spartan-II)
part A pins: 3 I/O (68) (io), 4 I/O (65) (io), 5 I/O, VREF (62) (io), 6 I/O (59) (io), 7 I/O (56) (io), 10 I/O (53) (io), 11 I/O (50) (io), 12 I/O, VREF (47) (io), 13 I/O (44) (io)
part B pins: 19 I/O (30) (io), 20 I/O (27) (io), 21 I/O, VREF (24) (io), 22 I/O (21) (io), 23 I/O (18) (io), 26 I/O (15) (io), 27 I/O (12) (io), 28 I/O, VREF (9) (io), 29 I/O (6) (io), 30 I/O (~{WRITE}) (3) (io), 31 I/O (~{CS}) (0) (io)
part C pins: 38 I/O (DOUT, BUSY) (296) (io), 39 I/O (DIN, D0) (293) (io), 40 I/O (290) (io), 41 I/O, VREF (287) (io), 43 I/O (284) (io), 44 I/O (D1) (281) (io), 46 I/O (D2) (278) (io), 47 I/O (275) (io), 48 I/O, VREF (272) (io), 49 I/O (D3) (269) (io), 50 I/O (266) (io), 51 I/O, IRDY (263) (io)
part D pins: 54 I/O, TRDY (260) (io), 56 I/O (257) (io), 57 I/O (D4) (254) (io), 58 I/O, VREF (251) (io), 59 I/O (248) (io), 60 I/O (D5) (245) (io), 62 I/O (D6) (242) (io), 63 I/O (239) (io), 65 I/O, VREF (236) (io), 66 I/O (233) (io), 67 I/O (D7) (230) (io), 68 I/O (~{INIT}) (227) (io)
part E pins: 74 I/O (220) (io), 75 I/O (217) (io), 76 I/O (214) (io), 77 I/O, VREF (211) (io), 79 I/O (208) (io), 80 I/O (205) (io), 83 I/O (202) (io), 84 I/O (199) (io), 85 I/O, VREF (196) (io), 86 I/O (193) (io), 87 I/O (190) (io)
part F pins: 93 I/O (176) (io), 94 I/O, VREF (173) (io), 95 I/O (170) (io), 96 I/O (167) (io), 99 I/O (164) (io), 100 I/O (161) (io), 102 I/O, VREF (158) (io), 103 I/O (155) (io)
part G pins: 112 I/O (143) (io), 113 I/O (140) (io), 114 I/O (137) (io), 115 I/O, VREF (134) (io), 117 I/O (131) (io), 118 I/O (128) (io), 120 I/O (125) (io), 121 I/O (122) (io), 122 I/O, VREF (119) (io), 123 I/O (116) (io), 124 I/O (113) (io), 126 I/O, TRDY (110) (io)
part H pins: 129 I/O, IRDY (107) (io), 130 I/O (104) (io), 131 I/O (101) (io), 132 I/O, VREF (98) (io), 133 I/O (95) (io), 134 I/O (92) (io), 136 I/O (89) (io), 137 I/O (86) (io), 139 I/O, VREF (83) (io), 140 I/O (80) (io), 141 I/O (77) (io)
part I pins: 15 GCK3 (37) (in), 18 GCK2 (36) (in), 88 GCK0 (186) (in), 91 GCK1 (185) (in)
part J pins: 2 TCK (io), 32 TDI (io), 34 TDO (io), 37 CCLK (299) (io), 69 PROGRAM (226) (in), 72 DONE (223) (io), 106 M2 (148) (in), 109 M0 (147) (in), 111 M1 (146) (in), 142 TMS (io)
part K pins: 1 VCCO (power), 9 VCCINT (power), 14 VCCINT (power), 16 VCCO (power), 24 VCCINT (power), 35 VCCO (power), 36 VCCO (power), 53 VCCO (power), 55 VCCINT (power), 70 VCCO (power), 71 VCCO (power), 82 VCCINT (power), 90 VCCO (power), 92 VCCINT (power), 97 VCCINT (power), 107 VCCO (power), 108 VCCO (power), 125 VCCINT (power), 127 VCCO (power), 144 VCCO (power)
part L pins: 8 GND (power), 17 GND (power), 25 GND (power), 33 GND (power), 45 GND (power), 52 GND (power), 61 GND (power), 73 GND (power), 81 GND (power), 89 GND (power), 98 GND (power), 110 GND (power), 119 GND (power), 128 GND (power), 135 GND (power), 143 GND (power)
part M pins: 42 NC, 64 NC, 78 NC, 101 NC, 104 NC, 105 NC, 116 NC, 138 NC
part A text: BANK 0
part B text: BANK 1
part C text: BANK 2
part D text: BANK 3
part E text: BANK 4
part F text: BANK 5
part G text: BANK 6
part H text: BANK 7

## XC2S15-5TQG144I
designator U?
Spartan-II 2.5V FPGA, 86 User I/Os, 144-Pin TQFP, Standard Performance, Industrial Grade, Pb-Free; Published: 2-Mar-2006; LatestRevisionDate: 16-Nov-2009; LatestRevisionNote: Updated to datasheet version 2.8 Jun-2008.; DatasheetVersion: ver2.8, Jun-2008; PackageVersion: ver1.2, Jun-2004; PackageReference: TQG144; Publisher: Altium Limited; PackageDescription: 144-Pin Thin Quad Flat Pack (TQG144) - Pb-Free; Code_JEDEC: MS-026-BFB; ComponentLink1Description: Spartan-II Datasheet; ComponentLink1URL: http://www.xilinx.com/support/documentation/data_sheets/ds001.pdf; ComponentLink2Description: TQG144 Package Drawing; ComponentLink2URL: http://www.xilinx.com/support/documentation/package_specs/tq144.pdf; ComponentLink3Description: Spartan-II Documents; ComponentLink3URL: http://www.xilinx.com/support/documentation/spartan-ii.htm; ComponentLink4Description: Xilinx.com Home; ComponentLink4URL: http://www.xilinx.com
footprint TQG144_N (Thin QFP, 144-Leads, Body 20x20mm, Pitch 0.5mm, IPC Medium Density)
footprint TQG144_L (Thin QFP, 144-Leads, Body 20x20mm, Pitch 0.5mm, IPC High Density)
footprint TQG144_M (Thin QFP, 144-Leads, Body 20x20mm, Pitch 0.5mm, IPC Low Density)
signal-integrity model XC2S15_TQG144 (Spartan-II)
part A pins: 3 I/O (68) (io), 4 I/O (65) (io), 5 I/O, VREF (62) (io), 6 I/O (59) (io), 7 I/O (56) (io), 10 I/O (53) (io), 11 I/O (50) (io), 12 I/O, VREF (47) (io), 13 I/O (44) (io)
part B pins: 19 I/O (30) (io), 20 I/O (27) (io), 21 I/O, VREF (24) (io), 22 I/O (21) (io), 23 I/O (18) (io), 26 I/O (15) (io), 27 I/O (12) (io), 28 I/O, VREF (9) (io), 29 I/O (6) (io), 30 I/O (~{WRITE}) (3) (io), 31 I/O (~{CS}) (0) (io)
part C pins: 38 I/O (DOUT, BUSY) (296) (io), 39 I/O (DIN, D0) (293) (io), 40 I/O (290) (io), 41 I/O, VREF (287) (io), 43 I/O (284) (io), 44 I/O (D1) (281) (io), 46 I/O (D2) (278) (io), 47 I/O (275) (io), 48 I/O, VREF (272) (io), 49 I/O (D3) (269) (io), 50 I/O (266) (io), 51 I/O, IRDY (263) (io)
part D pins: 54 I/O, TRDY (260) (io), 56 I/O (257) (io), 57 I/O (D4) (254) (io), 58 I/O, VREF (251) (io), 59 I/O (248) (io), 60 I/O (D5) (245) (io), 62 I/O (D6) (242) (io), 63 I/O (239) (io), 65 I/O, VREF (236) (io), 66 I/O (233) (io), 67 I/O (D7) (230) (io), 68 I/O (~{INIT}) (227) (io)
part E pins: 74 I/O (220) (io), 75 I/O (217) (io), 76 I/O (214) (io), 77 I/O, VREF (211) (io), 79 I/O (208) (io), 80 I/O (205) (io), 83 I/O (202) (io), 84 I/O (199) (io), 85 I/O, VREF (196) (io), 86 I/O (193) (io), 87 I/O (190) (io)
part F pins: 93 I/O (176) (io), 94 I/O, VREF (173) (io), 95 I/O (170) (io), 96 I/O (167) (io), 99 I/O (164) (io), 100 I/O (161) (io), 102 I/O, VREF (158) (io), 103 I/O (155) (io)
part G pins: 112 I/O (143) (io), 113 I/O (140) (io), 114 I/O (137) (io), 115 I/O, VREF (134) (io), 117 I/O (131) (io), 118 I/O (128) (io), 120 I/O (125) (io), 121 I/O (122) (io), 122 I/O, VREF (119) (io), 123 I/O (116) (io), 124 I/O (113) (io), 126 I/O, TRDY (110) (io)
part H pins: 129 I/O, IRDY (107) (io), 130 I/O (104) (io), 131 I/O (101) (io), 132 I/O, VREF (98) (io), 133 I/O (95) (io), 134 I/O (92) (io), 136 I/O (89) (io), 137 I/O (86) (io), 139 I/O, VREF (83) (io), 140 I/O (80) (io), 141 I/O (77) (io)
part I pins: 15 GCK3 (37) (in), 18 GCK2 (36) (in), 88 GCK0 (186) (in), 91 GCK1 (185) (in)
part J pins: 2 TCK (io), 32 TDI (io), 34 TDO (io), 37 CCLK (299) (io), 69 PROGRAM (226) (in), 72 DONE (223) (io), 106 M2 (148) (in), 109 M0 (147) (in), 111 M1 (146) (in), 142 TMS (io)
part K pins: 1 VCCO (power), 9 VCCINT (power), 14 VCCINT (power), 16 VCCO (power), 24 VCCINT (power), 35 VCCO (power), 36 VCCO (power), 53 VCCO (power), 55 VCCINT (power), 70 VCCO (power), 71 VCCO (power), 82 VCCINT (power), 90 VCCO (power), 92 VCCINT (power), 97 VCCINT (power), 107 VCCO (power), 108 VCCO (power), 125 VCCINT (power), 127 VCCO (power), 144 VCCO (power)
part L pins: 8 GND (power), 17 GND (power), 25 GND (power), 33 GND (power), 45 GND (power), 52 GND (power), 61 GND (power), 73 GND (power), 81 GND (power), 89 GND (power), 98 GND (power), 110 GND (power), 119 GND (power), 128 GND (power), 135 GND (power), 143 GND (power)
part M pins: 42 NC, 64 NC, 78 NC, 101 NC, 104 NC, 105 NC, 116 NC, 138 NC
part A text: BANK 0
part B text: BANK 1
part C text: BANK 2
part D text: BANK 3
part E text: BANK 4
part F text: BANK 5
part G text: BANK 6
part H text: BANK 7

## XC2S15-5VQ100C
designator U?
Spartan-II 2.5V FPGA, 60 User I/Os, 100-Pin VQFP, Standard Performance, Commercial Grade; Published: 13-Jul-2001; LatestRevisionDate: 16-Nov-2009; LatestRevisionNote: Updated to datasheet version 2.8 Jun-2008.; DatasheetVersion: ver2.8, Jun-2008; PackageVersion: ver1.2.1, Feb-2007; PackageReference: VQ100; Publisher: Altium Limited; PackageDescription: 100-Pin Very Thin Quad Flat Pack (VQ100); Supplier 1: Digi-Key; Supplier Part Number 1: 122-1219-ND; Code_JEDEC: MS-026-AED; ComponentLink1Description: Spartan-II Datasheet; ComponentLink1URL: http://www.xilinx.com/support/documentation/data_sheets/ds001.pdf; ComponentLink2Description: VQ100 Package Drawing; ComponentLink2URL: http://www.xilinx.com/support/documentation/package_specs/vq100.pdf; ComponentLink3Description: Spartan-II Documents; ComponentLink3URL: http://www.xilinx.com/support/documentation/spartan-ii.htm; ComponentLink4Description: Xilinx.com Home; ComponentLink4URL: http://www.xilinx.com
footprint VQ100_N (Thin QFP, 100-Leads, Body 14x14mm, Pitch 0.5mm, IPC Medium Density)
footprint VQ100_L (Thin QFP, 100-Leads, Body 14x14mm, Pitch 0.5mm, IPC High Density)
footprint VQ100_M (Thin QFP, 100-Leads, Body 14x14mm, Pitch 0.5mm, IPC Low Density)
signal-integrity model XC2S15_VQ100 (Spartan-II)
part A pins: 93 I/O, VREF (47) (io), 95 I/O (56) (io), 96 I/O (59) (io), 97 I/O, VREF (62) (io), 98 I/O (68) (io)
part B pins: 80 I/O (~{CS}) (0) (io), 81 I/O (~{WRITE}) (3) (io), 82 I/O, VREF (9) (io), 83 I/O (12) (io), 84 I/O (15) (io), 86 I/O, VREF (24) (io), 87 I/O (30) (io)
part C pins: 65 I/O, IRDY (263) (io), 66 I/O (D3) (269) (io), 67 I/O, VREF (272) (io), 68 I/O (275) (io), 69 I/O (D2) (278) (io), 70 I/O (D1) (281) (io), 71 I/O (284) (io), 72 I/O, VREF (287) (io), 73 I/O (DIN, D0) (293) (io), 74 I/O (DOUT, BUSY) (296) (io)
part D pins: 52 I/O (~{INIT}) (227) (io), 53 I/O (D7) (230) (io), 54 I/O, VREF (236) (io), 55 I/O (239) (io), 56 I/O (D6) (242) (io), 57 I/O (D5) (245) (io), 58 I/O (248) (io), 59 I/O, VREF (251) (io), 60 I/O (D4) (254) (io), 62 I/O, TRDY (260) (io)
part E pins: 40 I/O (190) (io), 41 I/O, VREF (196) (io), 43 I/O (205) (io), 44 I/O (208) (io), 45 I/O, VREF (211) (io), 46 I/O (217) (io), 47 I/O (220) (io)
part F pins: 30 I/O, VREF (158) (io), 31 I/O (161) (io), 32 I/O (164) (io), 34 I/O, VREF (173) (io)
part G pins: 13 I/O, TRDY (110) (io), 15 I/O (116) (io), 16 I/O, VREF (119) (io), 17 I/O (125) (io), 18 I/O (128) (io), 19 I/O (131) (io), 20 I/O, VREF (134) (io), 21 I/O (140) (io), 22 I/O (143) (io)
part H pins: 3 I/O (77) (io), 4 I/O, VREF (83) (io), 5 I/O (86) (io), 6 I/O (89) (io), 7 I/O (92) (io), 8 I/O, VREF (98) (io), 9 I/O (101) (io), 10 I/O, IRDY (107) (io)
part I pins: 36 GCK1 (185) (in), 39 GCK0 (186) (in), 88 GCK2 (36) (in), 91 GCK3 (37) (in)
part J pins: 2 TMS (io), 23 M1 (146) (in), 25 M0 (147) (in), 27 M2 (148) (in), 28 NC, 29 NC, 49 DONE (223) (io), 51 PROGRAM (226) (in), 75 CCLK (299) (io), 77 TDO (io), 79 TDI (io), 99 TCK (io)
part K pins: 12 VCCO (power), 14 VCCINT (power), 26 VCCO (power), 33 VCCINT (power), 35 VCCINT (power), 37 VCCO (power), 42 VCCINT (power), 50 VCCO (power), 61 VCCINT (power), 63 VCCO (power), 76 VCCO (power), 85 VCCINT (power), 90 VCCO (power), 92 VCCINT (power), 94 VCCINT (power), 100 VCCO (power)
part L pins: 1 GND (power), 11 GND (power), 24 GND (power), 38 GND (power), 48 GND (power), 64 GND (power), 78 GND (power), 89 GND (power)
part A text: BANK 0
part B text: BANK 1
part C text: BANK 2
part D text: BANK 3
part E text: BANK 4
part F text: BANK 5
part G text: BANK 6
part H text: BANK 7

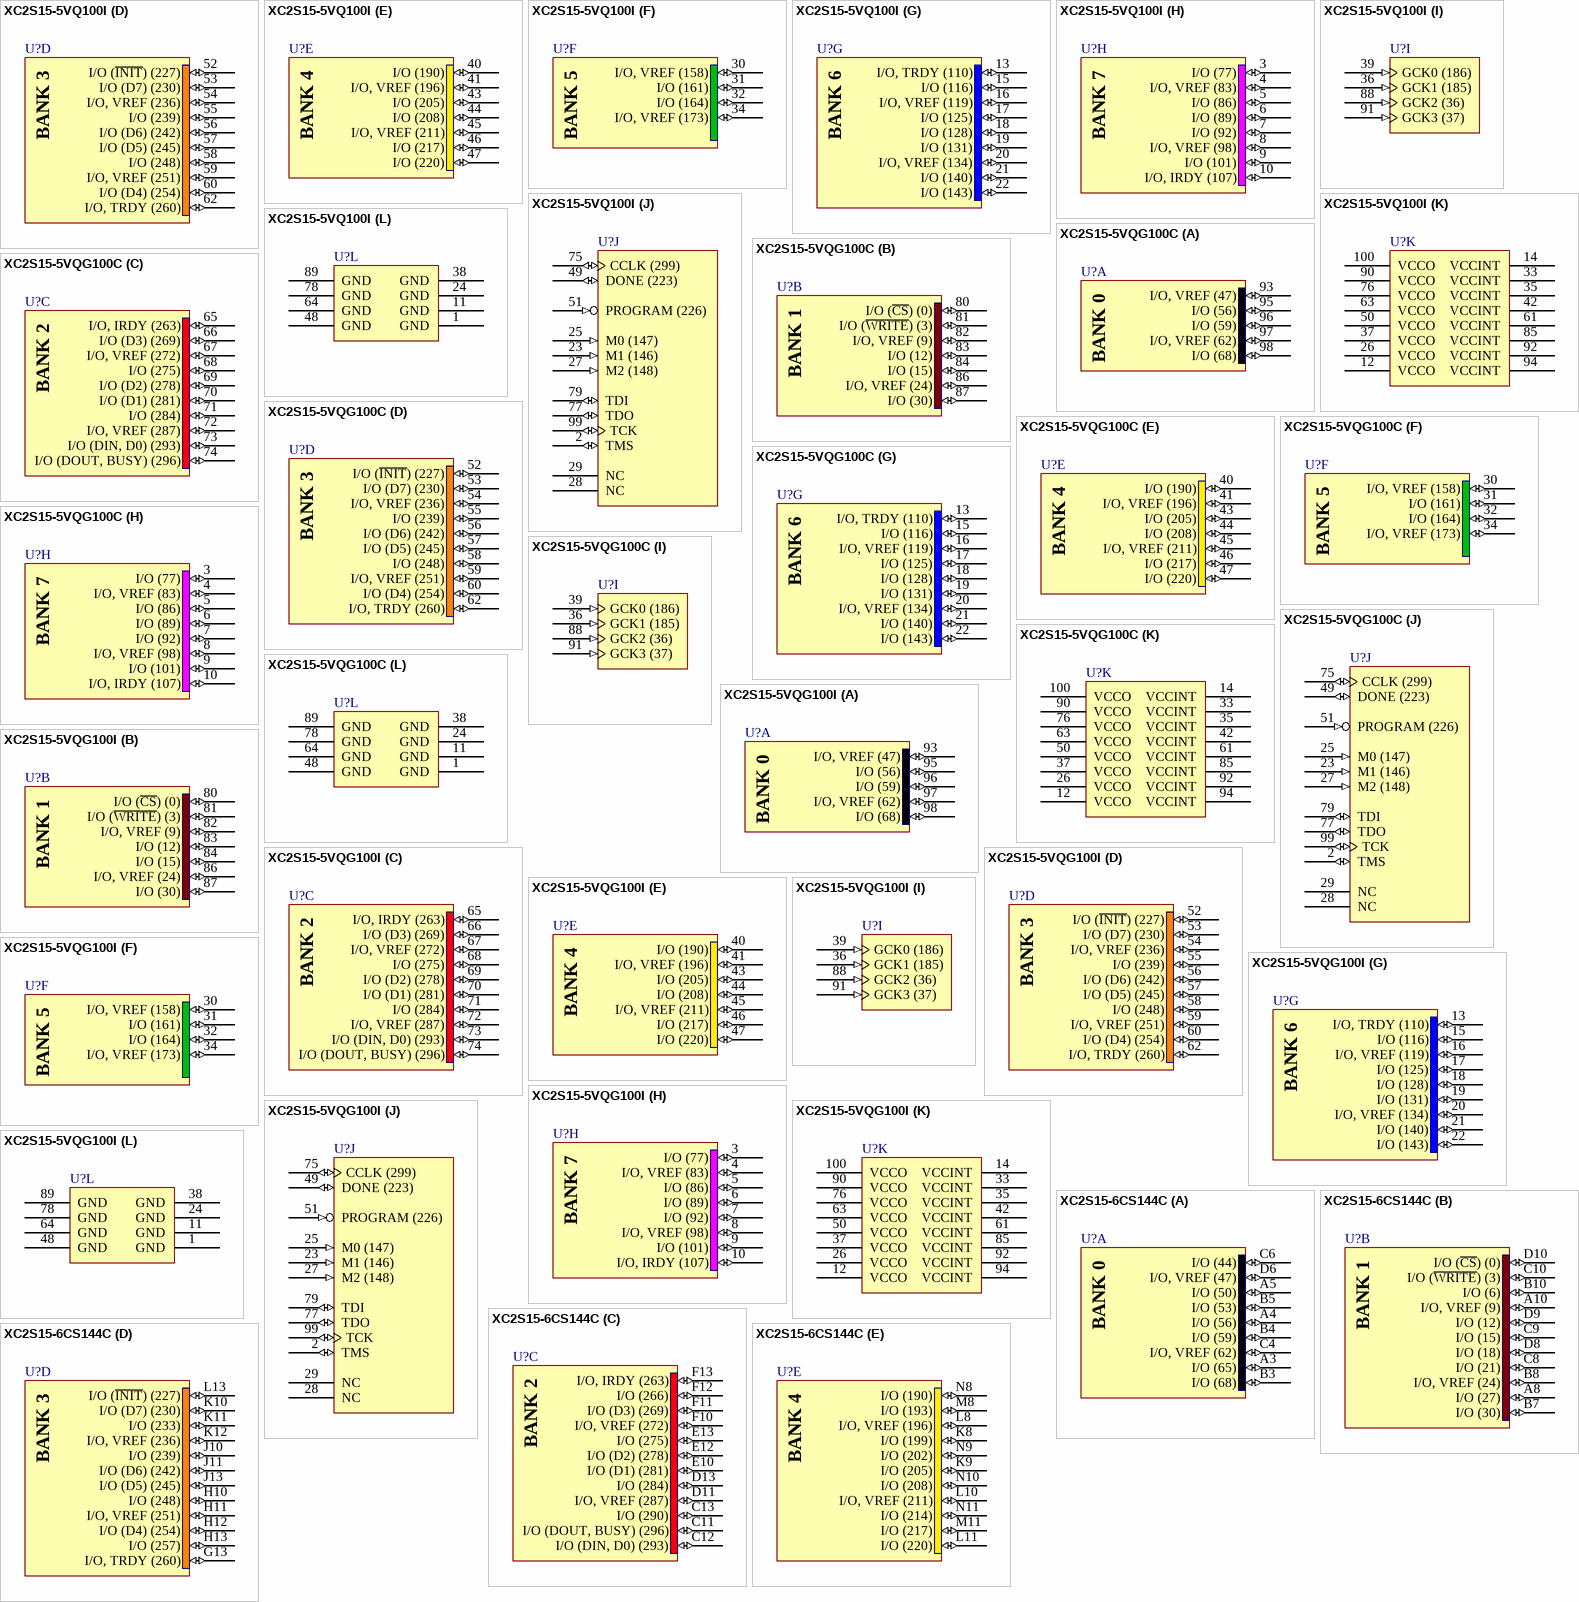
[diagram p4: symbols XC2S15-5VQ100I to XC2S15-6CS144C]

## XC2S15-5VQ100I
designator U?
Spartan-II 2.5V FPGA, 60 User I/Os, 100-Pin VQFP, Standard Performance, Industrial Grade; Published: 13-Jul-2001; LatestRevisionDate: 16-Nov-2009; LatestRevisionNote: Updated to datasheet version 2.8 Jun-2008.; DatasheetVersion: ver2.8, Jun-2008; PackageVersion: ver1.2.1, Feb-2007; PackageReference: VQ100; Publisher: Altium Limited; PackageDescription: 100-Pin Very Thin Quad Flat Pack (VQ100); Supplier 1: Digi-Key; Supplier Part Number 1: XC2S15-5VQ100I-ND; Code_JEDEC: MS-026-AED; ComponentLink1Description: Spartan-II Datasheet; ComponentLink1URL: http://www.xilinx.com/support/documentation/data_sheets/ds001.pdf; ComponentLink2Description: VQ100 Package Drawing; ComponentLink2URL: http://www.xilinx.com/support/documentation/package_specs/vq100.pdf; ComponentLink3Description: Spartan-II Documents; ComponentLink3URL: http://www.xilinx.com/support/documentation/spartan-ii.htm; ComponentLink4Description: Xilinx.com Home; ComponentLink4URL: http://www.xilinx.com
footprint VQ100_N (Thin QFP, 100-Leads, Body 14x14mm, Pitch 0.5mm, IPC Medium Density)
footprint VQ100_L (Thin QFP, 100-Leads, Body 14x14mm, Pitch 0.5mm, IPC High Density)
footprint VQ100_M (Thin QFP, 100-Leads, Body 14x14mm, Pitch 0.5mm, IPC Low Density)
signal-integrity model XC2S15_VQ100 (Spartan-II)
part A pins: 93 I/O, VREF (47) (io), 95 I/O (56) (io), 96 I/O (59) (io), 97 I/O, VREF (62) (io), 98 I/O (68) (io)
part B pins: 80 I/O (~{CS}) (0) (io), 81 I/O (~{WRITE}) (3) (io), 82 I/O, VREF (9) (io), 83 I/O (12) (io), 84 I/O (15) (io), 86 I/O, VREF (24) (io), 87 I/O (30) (io)
part C pins: 65 I/O, IRDY (263) (io), 66 I/O (D3) (269) (io), 67 I/O, VREF (272) (io), 68 I/O (275) (io), 69 I/O (D2) (278) (io), 70 I/O (D1) (281) (io), 71 I/O (284) (io), 72 I/O, VREF (287) (io), 73 I/O (DIN, D0) (293) (io), 74 I/O (DOUT, BUSY) (296) (io)
part D pins: 52 I/O (~{INIT}) (227) (io), 53 I/O (D7) (230) (io), 54 I/O, VREF (236) (io), 55 I/O (239) (io), 56 I/O (D6) (242) (io), 57 I/O (D5) (245) (io), 58 I/O (248) (io), 59 I/O, VREF (251) (io), 60 I/O (D4) (254) (io), 62 I/O, TRDY (260) (io)
part E pins: 40 I/O (190) (io), 41 I/O, VREF (196) (io), 43 I/O (205) (io), 44 I/O (208) (io), 45 I/O, VREF (211) (io), 46 I/O (217) (io), 47 I/O (220) (io)
part F pins: 30 I/O, VREF (158) (io), 31 I/O (161) (io), 32 I/O (164) (io), 34 I/O, VREF (173) (io)
part G pins: 13 I/O, TRDY (110) (io), 15 I/O (116) (io), 16 I/O, VREF (119) (io), 17 I/O (125) (io), 18 I/O (128) (io), 19 I/O (131) (io), 20 I/O, VREF (134) (io), 21 I/O (140) (io), 22 I/O (143) (io)
part H pins: 3 I/O (77) (io), 4 I/O, VREF (83) (io), 5 I/O (86) (io), 6 I/O (89) (io), 7 I/O (92) (io), 8 I/O, VREF (98) (io), 9 I/O (101) (io), 10 I/O, IRDY (107) (io)
part I pins: 36 GCK1 (185) (in), 39 GCK0 (186) (in), 88 GCK2 (36) (in), 91 GCK3 (37) (in)
part J pins: 2 TMS (io), 23 M1 (146) (in), 25 M0 (147) (in), 27 M2 (148) (in), 28 NC, 29 NC, 49 DONE (223) (io), 51 PROGRAM (226) (in), 75 CCLK (299) (io), 77 TDO (io), 79 TDI (io), 99 TCK (io)
part K pins: 12 VCCO (power), 14 VCCINT (power), 26 VCCO (power), 33 VCCINT (power), 35 VCCINT (power), 37 VCCO (power), 42 VCCINT (power), 50 VCCO (power), 61 VCCINT (power), 63 VCCO (power), 76 VCCO (power), 85 VCCINT (power), 90 VCCO (power), 92 VCCINT (power), 94 VCCINT (power), 100 VCCO (power)
part L pins: 1 GND (power), 11 GND (power), 24 GND (power), 38 GND (power), 48 GND (power), 64 GND (power), 78 GND (power), 89 GND (power)
part A text: BANK 0
part B text: BANK 1
part C text: BANK 2
part D text: BANK 3
part E text: BANK 4
part F text: BANK 5
part G text: BANK 6
part H text: BANK 7

## XC2S15-5VQG100C
designator U?
Spartan-II 2.5V FPGA, 60 User I/Os, 100-Pin VQFP, Standard Performance, Commercial Grade, Pb-Free; Published: 2-Mar-2006; LatestRevisionDate: 16-Nov-2009; LatestRevisionNote: Updated to datasheet version 2.8 Jun-2008.; DatasheetVersion: ver2.8, Jun-2008; PackageVersion: ver1.2.1, Feb-2007; PackageReference: VQG100; Publisher: Altium Limited; PackageDescription: 100-Pin Very Thin Quad Flat Pack (VQG100) - Pb-Free; Supplier 1: Digi-Key; Supplier Part Number 1: 122-1309-ND; Code_JEDEC: MS-026-AED; ComponentLink1Description: Spartan-II Datasheet; ComponentLink1URL: http://www.xilinx.com/support/documentation/data_sheets/ds001.pdf; ComponentLink2Description: VQG100 Package Drawing; ComponentLink2URL: http://www.xilinx.com/support/documentation/package_specs/vq100.pdf; ComponentLink3Description: Spartan-II Documents; ComponentLink3URL: http://www.xilinx.com/support/documentation/spartan-ii.htm; ComponentLink4Description: Xilinx.com Home; ComponentLink4URL: http://www.xilinx.com
footprint VQG100_N (Thin QFP, 100-Leads, Body 14x14mm, Pitch 0.5mm, IPC Medium Density)
footprint VQG100_L (Thin QFP, 100-Leads, Body 14x14mm, Pitch 0.5mm, IPC High Density)
footprint VQG100_M (Thin QFP, 100-Leads, Body 14x14mm, Pitch 0.5mm, IPC Low Density)
signal-integrity model XC2S15_VQG100 (Spartan-II)
part A pins: 93 I/O, VREF (47) (io), 95 I/O (56) (io), 96 I/O (59) (io), 97 I/O, VREF (62) (io), 98 I/O (68) (io)
part B pins: 80 I/O (~{CS}) (0) (io), 81 I/O (~{WRITE}) (3) (io), 82 I/O, VREF (9) (io), 83 I/O (12) (io), 84 I/O (15) (io), 86 I/O, VREF (24) (io), 87 I/O (30) (io)
part C pins: 65 I/O, IRDY (263) (io), 66 I/O (D3) (269) (io), 67 I/O, VREF (272) (io), 68 I/O (275) (io), 69 I/O (D2) (278) (io), 70 I/O (D1) (281) (io), 71 I/O (284) (io), 72 I/O, VREF (287) (io), 73 I/O (DIN, D0) (293) (io), 74 I/O (DOUT, BUSY) (296) (io)
part D pins: 52 I/O (~{INIT}) (227) (io), 53 I/O (D7) (230) (io), 54 I/O, VREF (236) (io), 55 I/O (239) (io), 56 I/O (D6) (242) (io), 57 I/O (D5) (245) (io), 58 I/O (248) (io), 59 I/O, VREF (251) (io), 60 I/O (D4) (254) (io), 62 I/O, TRDY (260) (io)
part E pins: 40 I/O (190) (io), 41 I/O, VREF (196) (io), 43 I/O (205) (io), 44 I/O (208) (io), 45 I/O, VREF (211) (io), 46 I/O (217) (io), 47 I/O (220) (io)
part F pins: 30 I/O, VREF (158) (io), 31 I/O (161) (io), 32 I/O (164) (io), 34 I/O, VREF (173) (io)
part G pins: 13 I/O, TRDY (110) (io), 15 I/O (116) (io), 16 I/O, VREF (119) (io), 17 I/O (125) (io), 18 I/O (128) (io), 19 I/O (131) (io), 20 I/O, VREF (134) (io), 21 I/O (140) (io), 22 I/O (143) (io)
part H pins: 3 I/O (77) (io), 4 I/O, VREF (83) (io), 5 I/O (86) (io), 6 I/O (89) (io), 7 I/O (92) (io), 8 I/O, VREF (98) (io), 9 I/O (101) (io), 10 I/O, IRDY (107) (io)
part I pins: 36 GCK1 (185) (in), 39 GCK0 (186) (in), 88 GCK2 (36) (in), 91 GCK3 (37) (in)
part J pins: 2 TMS (io), 23 M1 (146) (in), 25 M0 (147) (in), 27 M2 (148) (in), 28 NC, 29 NC, 49 DONE (223) (io), 51 PROGRAM (226) (in), 75 CCLK (299) (io), 77 TDO (io), 79 TDI (io), 99 TCK (io)
part K pins: 12 VCCO (power), 14 VCCINT (power), 26 VCCO (power), 33 VCCINT (power), 35 VCCINT (power), 37 VCCO (power), 42 VCCINT (power), 50 VCCO (power), 61 VCCINT (power), 63 VCCO (power), 76 VCCO (power), 85 VCCINT (power), 90 VCCO (power), 92 VCCINT (power), 94 VCCINT (power), 100 VCCO (power)
part L pins: 1 GND (power), 11 GND (power), 24 GND (power), 38 GND (power), 48 GND (power), 64 GND (power), 78 GND (power), 89 GND (power)
part A text: BANK 0
part B text: BANK 1
part C text: BANK 2
part D text: BANK 3
part E text: BANK 4
part F text: BANK 5
part G text: BANK 6
part H text: BANK 7

## XC2S15-5VQG100I
designator U?
Spartan-II 2.5V FPGA, 60 User I/Os, 100-Pin VQFP, Standard Performance, Industrial Grade, Pb-Free; Published: 2-Mar-2006; LatestRevisionDate: 16-Nov-2009; LatestRevisionNote: Updated to datasheet version 2.8 Jun-2008.; DatasheetVersion: ver2.8, Jun-2008; PackageVersion: ver1.2.1, Feb-2007; PackageReference: VQG100; Publisher: Altium Limited; PackageDescription: 100-Pin Very Thin Quad Flat Pack (VQG100) - Pb-Free; Code_JEDEC: MS-026-AED; ComponentLink1Description: Spartan-II Datasheet; ComponentLink1URL: http://www.xilinx.com/support/documentation/data_sheets/ds001.pdf; ComponentLink2Description: VQG100 Package Drawing; ComponentLink2URL: http://www.xilinx.com/support/documentation/package_specs/vq100.pdf; ComponentLink3Description: Spartan-II Documents; ComponentLink3URL: http://www.xilinx.com/support/documentation/spartan-ii.htm; ComponentLink4Description: Xilinx.com Home; ComponentLink4URL: http://www.xilinx.com
footprint VQG100_N (Thin QFP, 100-Leads, Body 14x14mm, Pitch 0.5mm, IPC Medium Density)
footprint VQG100_L (Thin QFP, 100-Leads, Body 14x14mm, Pitch 0.5mm, IPC High Density)
footprint VQG100_M (Thin QFP, 100-Leads, Body 14x14mm, Pitch 0.5mm, IPC Low Density)
signal-integrity model XC2S15_VQG100 (Spartan-II)
part A pins: 93 I/O, VREF (47) (io), 95 I/O (56) (io), 96 I/O (59) (io), 97 I/O, VREF (62) (io), 98 I/O (68) (io)
part B pins: 80 I/O (~{CS}) (0) (io), 81 I/O (~{WRITE}) (3) (io), 82 I/O, VREF (9) (io), 83 I/O (12) (io), 84 I/O (15) (io), 86 I/O, VREF (24) (io), 87 I/O (30) (io)
part C pins: 65 I/O, IRDY (263) (io), 66 I/O (D3) (269) (io), 67 I/O, VREF (272) (io), 68 I/O (275) (io), 69 I/O (D2) (278) (io), 70 I/O (D1) (281) (io), 71 I/O (284) (io), 72 I/O, VREF (287) (io), 73 I/O (DIN, D0) (293) (io), 74 I/O (DOUT, BUSY) (296) (io)
part D pins: 52 I/O (~{INIT}) (227) (io), 53 I/O (D7) (230) (io), 54 I/O, VREF (236) (io), 55 I/O (239) (io), 56 I/O (D6) (242) (io), 57 I/O (D5) (245) (io), 58 I/O (248) (io), 59 I/O, VREF (251) (io), 60 I/O (D4) (254) (io), 62 I/O, TRDY (260) (io)
part E pins: 40 I/O (190) (io), 41 I/O, VREF (196) (io), 43 I/O (205) (io), 44 I/O (208) (io), 45 I/O, VREF (211) (io), 46 I/O (217) (io), 47 I/O (220) (io)
part F pins: 30 I/O, VREF (158) (io), 31 I/O (161) (io), 32 I/O (164) (io), 34 I/O, VREF (173) (io)
part G pins: 13 I/O, TRDY (110) (io), 15 I/O (116) (io), 16 I/O, VREF (119) (io), 17 I/O (125) (io), 18 I/O (128) (io), 19 I/O (131) (io), 20 I/O, VREF (134) (io), 21 I/O (140) (io), 22 I/O (143) (io)
part H pins: 3 I/O (77) (io), 4 I/O, VREF (83) (io), 5 I/O (86) (io), 6 I/O (89) (io), 7 I/O (92) (io), 8 I/O, VREF (98) (io), 9 I/O (101) (io), 10 I/O, IRDY (107) (io)
part I pins: 36 GCK1 (185) (in), 39 GCK0 (186) (in), 88 GCK2 (36) (in), 91 GCK3 (37) (in)
part J pins: 2 TMS (io), 23 M1 (146) (in), 25 M0 (147) (in), 27 M2 (148) (in), 28 NC, 29 NC, 49 DONE (223) (io), 51 PROGRAM (226) (in), 75 CCLK (299) (io), 77 TDO (io), 79 TDI (io), 99 TCK (io)
part K pins: 12 VCCO (power), 14 VCCINT (power), 26 VCCO (power), 33 VCCINT (power), 35 VCCINT (power), 37 VCCO (power), 42 VCCINT (power), 50 VCCO (power), 61 VCCINT (power), 63 VCCO (power), 76 VCCO (power), 85 VCCINT (power), 90 VCCO (power), 92 VCCINT (power), 94 VCCINT (power), 100 VCCO (power)
part L pins: 1 GND (power), 11 GND (power), 24 GND (power), 38 GND (power), 48 GND (power), 64 GND (power), 78 GND (power), 89 GND (power)
part A text: BANK 0
part B text: BANK 1
part C text: BANK 2
part D text: BANK 3
part E text: BANK 4
part F text: BANK 5
part G text: BANK 6
part H text: BANK 7

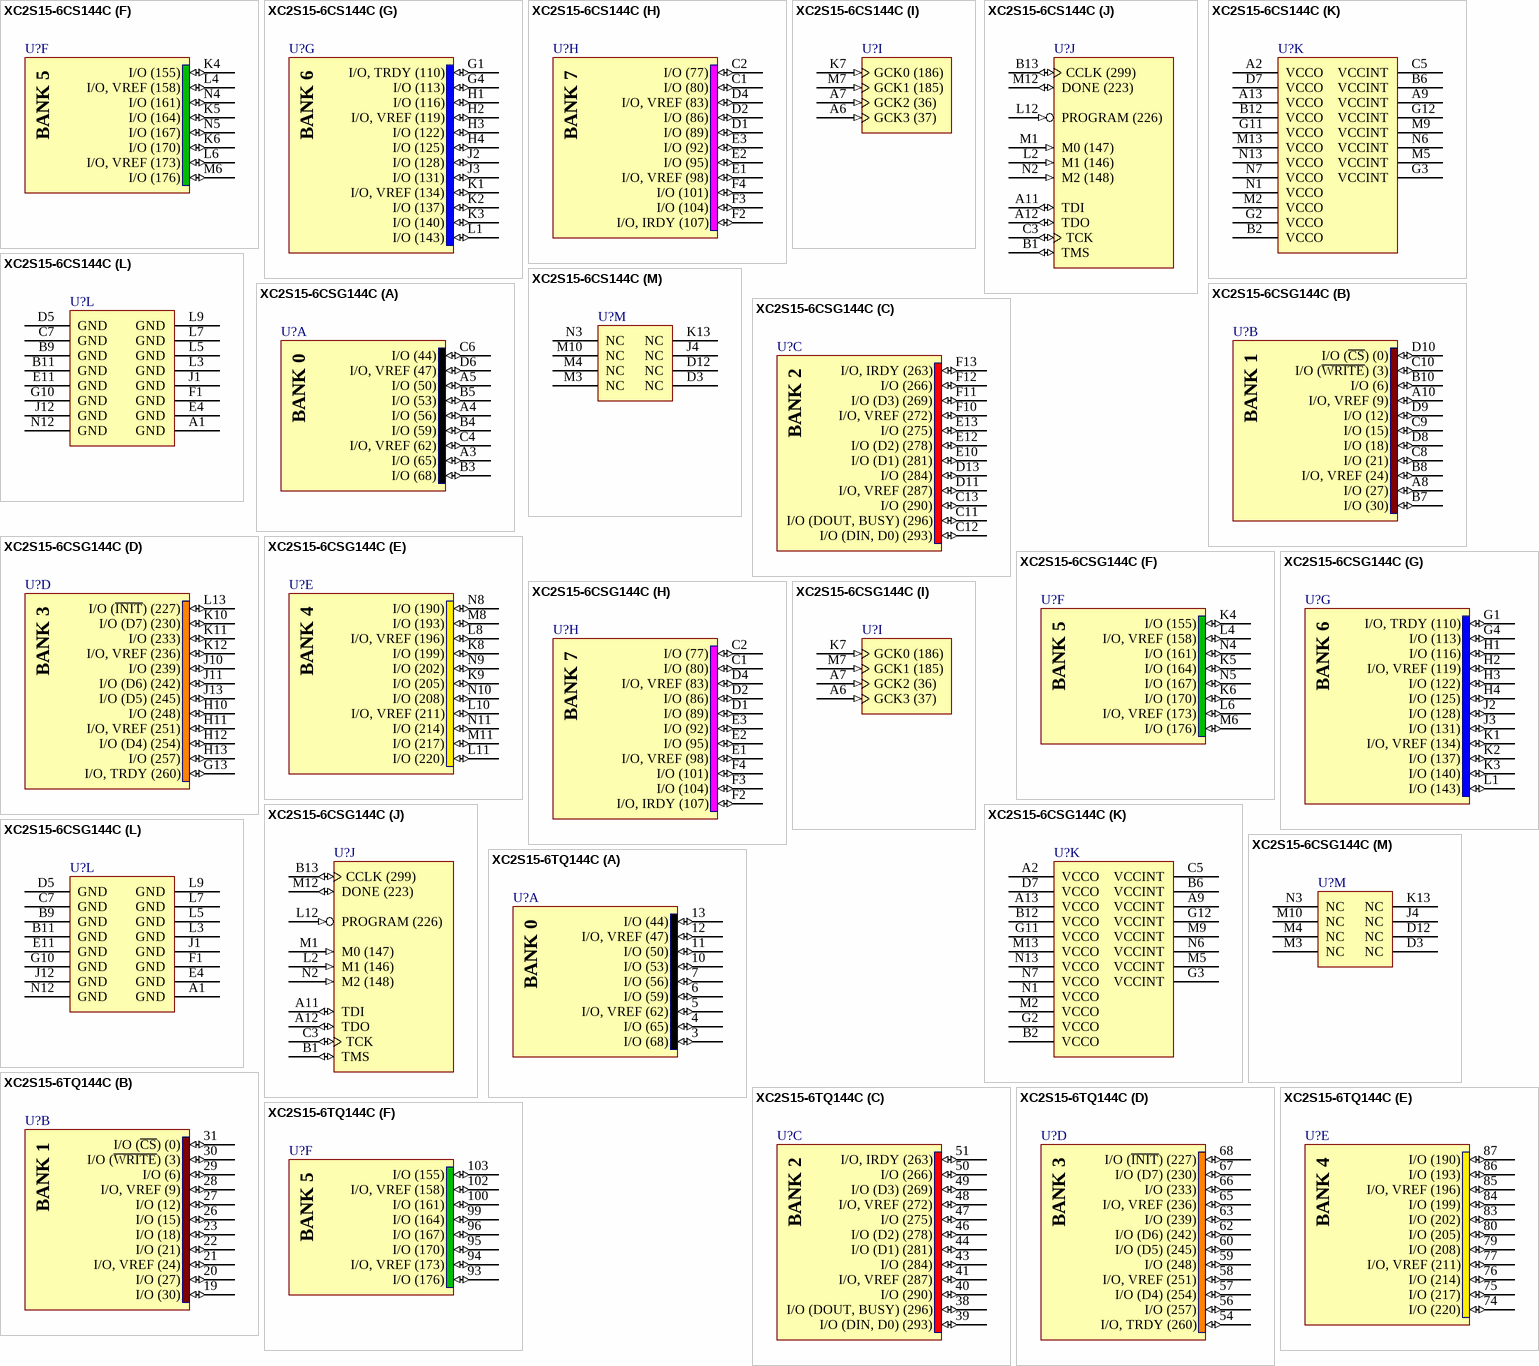
[diagram p5: symbols XC2S15-6CS144C to XC2S15-6TQ144C]